# Altium integrated library TI Digital Signal Processor 32-Bit.IntLib: 121 symbols (part 4 of 13)
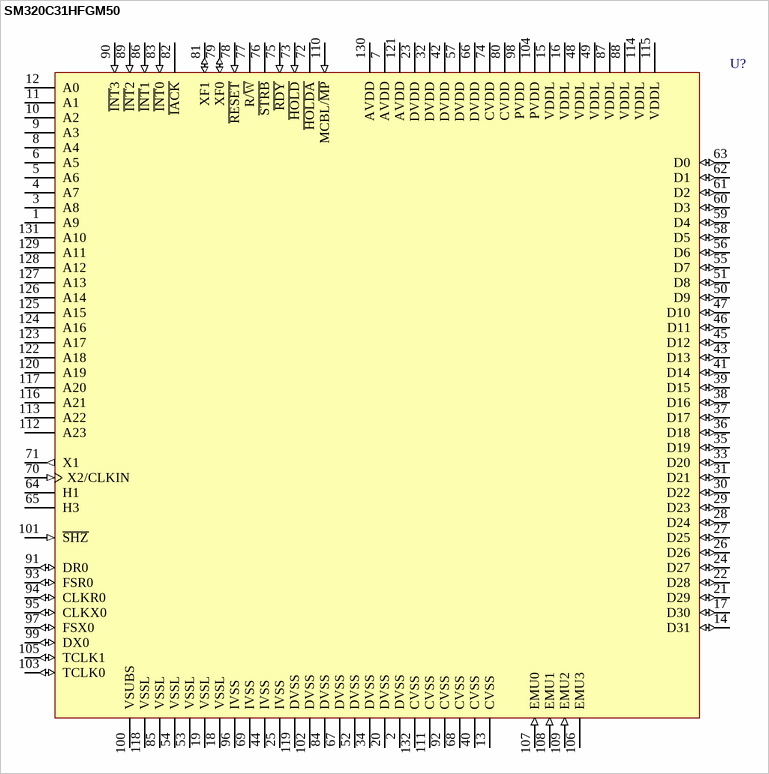
[diagram p133: symbol SM320C31HFGM50]

## SM320C31HFGM50
designator U?
Floating DSP; Published: 25-Jan-2001; LatestRevisionDate: 13-Apr-2006; LatestRevisionNote: IPC-7351 Footprint Added.; DatasheetVersion: Jun-2000; PackageVersion: Jun-1999; PackageReference: HFG132; Publisher: Altium Limited; PackageDescription: 132-Pin Ceramic Quad Flat Pack 0.635 mm Pitch; ComponentLink1Description: Manufacturer Link; ComponentLink1URL: http://www.ti.com/; ComponentLink2Description: Datasheet; ComponentLink2URL: http://www-s.ti.com/sc/ds/sm320c31.pdf
footprint HFG132_N (CQFP, 132-Leads, Body 24x24mm; Pitch 0.635mm, Gullwing Leadform, IPC Medium Density)
footprint HFG132_L (CQFP, 132-Leads, Body 24x24mm; Pitch 0.635mm, Gullwing Leadform, IPC High Density)
footprint HFG132_M (CQFP, 132-Leads, Body 24x24mm; Pitch 0.635mm, Gullwing Leadform, IPC Low Density)
3D model SM320C31-HFG132 (132-Pin Ceramic Quad Flat Pack 0.635 mm Pitch)
pins: 1 A9 (hiz), 2 DVSS (power), 3 A8 (hiz), 4 A7 (hiz), 5 A6 (hiz), 6 A5 (hiz), 7 AVDD (power), 8 A4 (hiz), 9 A3 (hiz), 10 A2 (hiz), 11 A1 (hiz), 12 A0 (hiz), 13 CVSS (power), 14 D31 (io), 15 VDDL (power), 16 VDDL (power), 17 D30 (io), 18 VSSL (power), 19 VSSL (power), 20 DVSS (power), 21 D29 (io), 22 D28 (io), 23 DVDD (power), 24 D27 (io), 25 IVSS (power), 26 D26 (io), 27 D25 (io), 28 D24 (io), 29 D23 (io), 30 D22 (io), 31 D21 (io), 32 DVDD (power), 33 D20 (io), 34 DVSS (power), 35 D19 (io), 36 D18 (io), 37 D17 (io), 38 D16 (io), 39 D15 (io), 40 CVSS (power), 41 D14 (io), 42 DVDD (power), 43 D13 (io), 44 IVSS (power), 45 D12 (io), 46 D11 (io), 47 D10 (io), 48 VDDL (power), 49 VDDL (power), 50 D9 (io), 51 D8 (io), 52 DVSS (power), 53 VSSL (power), 54 VSSL (power), 55 D7 (io), 56 D6 (io), 57 DVDD (power), 58 D5 (io), 59 D4 (io), 60 D3 (io), 61 D2 (io), 62 D1 (io), 63 D0 (io), 64 H1 (hiz), 65 H3 (hiz), 66 DVDD (power), 67 DVSS (power), 68 CVSS (power), 69 IVSS (power), 70 X2/CLKIN (in), 71 X1 (out), 72 ~{HOLDA} (hiz), 73 ~{HOLD} (in), 74 CVDD (power), 75 ~{RDY} (in), 76 ~{STRB} (hiz), 77 R/~{W} (hiz), 78 ~{RESET} (in), 79 XF0 (io), 80 CVDD (power), 81 XF1 (io), 82 ~{IACK} (hiz), 83 ~{INT}0 (in), 84 DVSS (power), 85 VSSL (power), 86 ~{INT}1 (in), 87 VDDL (power), 88 VDDL (power), 89 ~{INT}2 (in), 90 ~{INT}3 (in), 91 DR0 (io), 92 CVSS (power), 93 FSR0 (io), 94 CLKR0 (io), 95 CLKX0 (io), 96 IVSS (power), 97 FSX0 (io), 98 PVDD (power), 99 DX0 (io), 100 VSUBS (power), 101 ~{SHZ} (in), 102 DVSS (power), 103 TCLK0 (io), 104 PVDD (power), 105 TCLK1 (io), 106 EMU3 (hiz), 107 EMU0 (in), 108 EMU1 (in), 109 EMU2 (in), 110 MCBL/~{MP} (in), 111 CVSS (power), 112 A23 (hiz), 113 A22 (hiz), 114 VDDL (power), 115 VDDL (power), 116 A21 (hiz), 117 A20 (hiz), 118 VSSL (power), 119 DVSS (power), 120 A19 (hiz), 121 AVDD (power), 122 A18 (hiz), 123 A17 (hiz), 124 A16 (hiz), 125 A15 (hiz), 126 A14 (hiz), 127 A13 (hiz), 128 A12 (hiz), 129 A11 (hiz), 130 AVDD (power), 131 A10 (hiz), 132 CVSS (power)

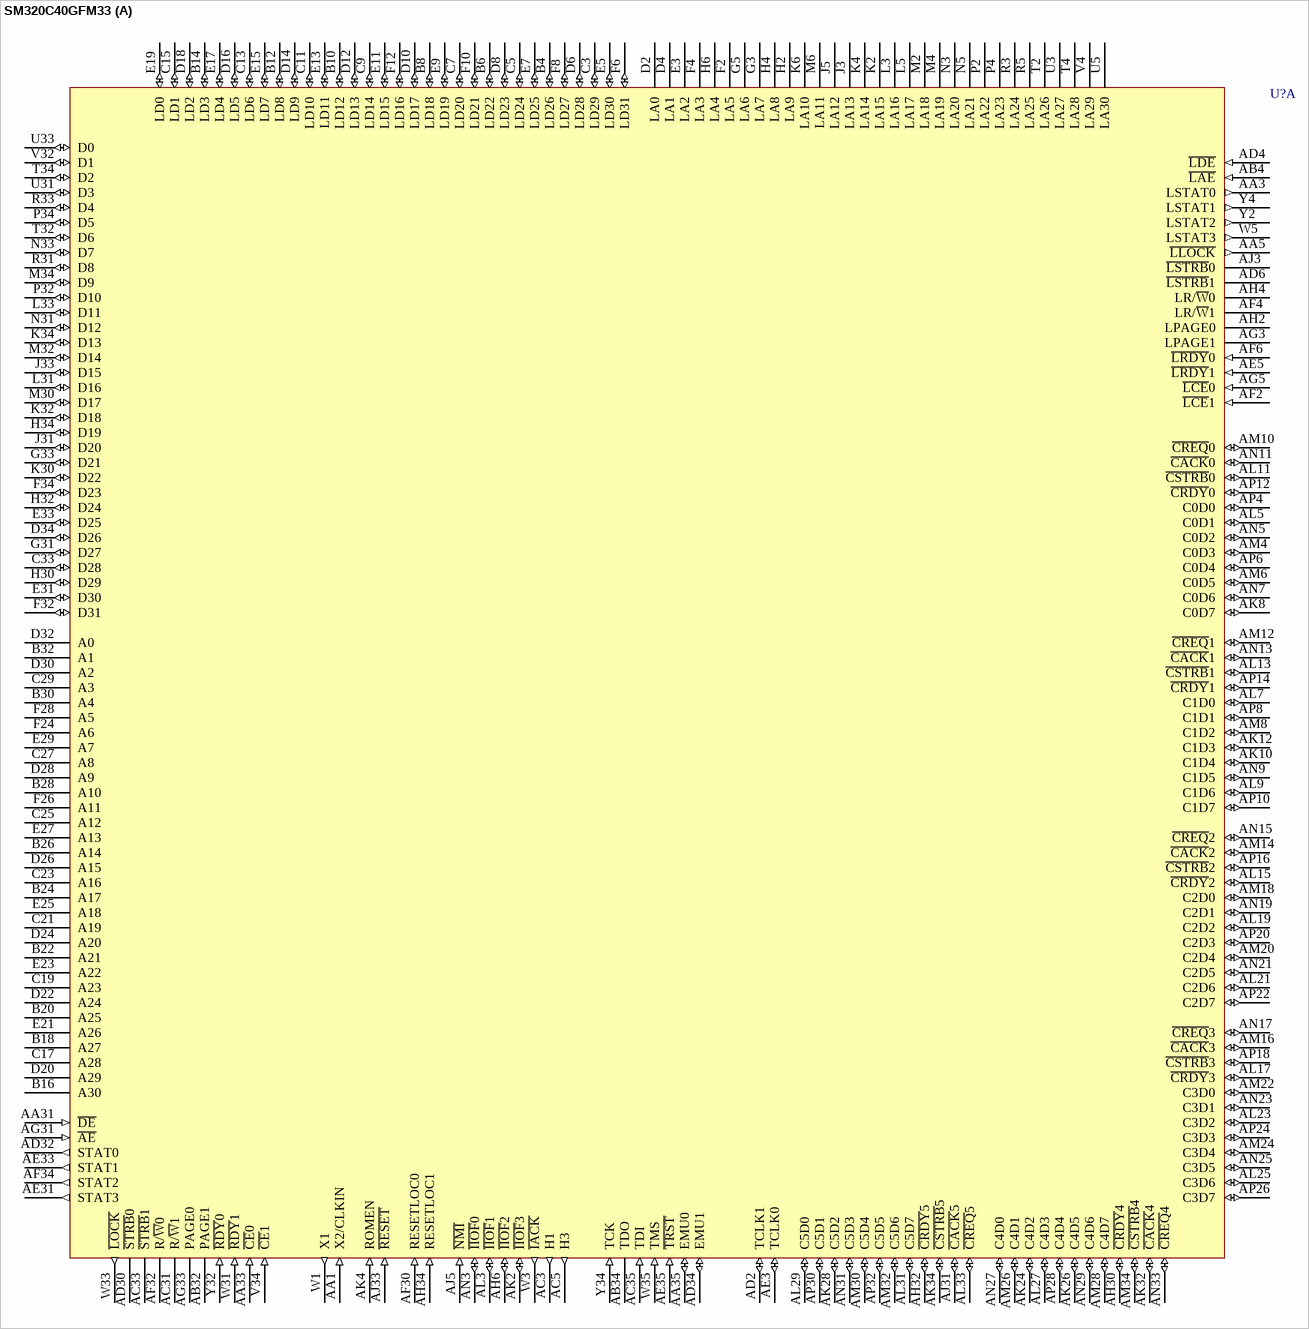
[diagram p36: symbol SM320C40GFM33]

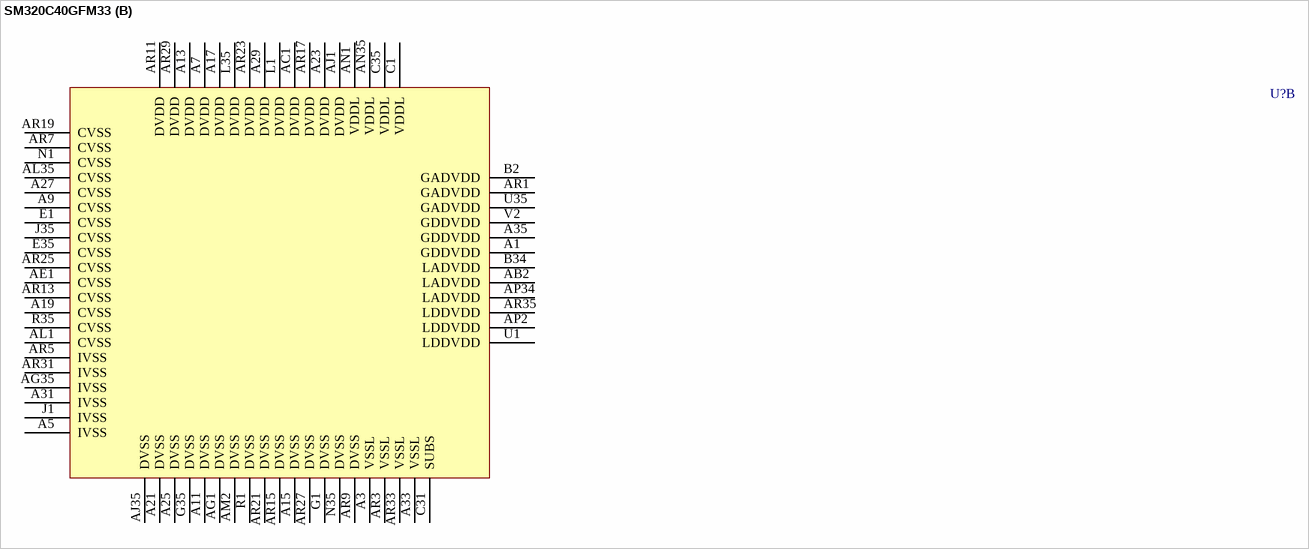
[diagram p37: symbol SM320C40GFM33]

## SM320C40GFM33
designator U?
Floating DSP; Published: 25-Jan-2001; LatestRevisionDate: 08-Jul-2005; LatestRevisionNote: Stylized 3D Model Added.; DatasheetVersion: Jun-2000; PackageVersion: Jun-1997; PackageReference: GF325; Publisher: Altium Limited; PackageDescription: 325-Pin Pin Grid Array 2.54 mm Pitch; ComponentLink1Description: Manufacturer Link; ComponentLink1URL: http://www.ti.com/; ComponentLink2Description: Datasheet; ComponentLink2URL: http://www-s.ti.com/sc/ds/sm320c40.pdf
footprint GF325 (PGA, 325-Leads, Body 47x47mm, Pitch 2.54mm)
3D model SM320C40-GF325 (325-Pin Pin Grid Array 2.54 mm Pitch)
part A pins: AA1 X2/CLKIN (in), AA3 LSTAT0 (out), AA5 ~{LLOCK} (out), AA31 ~{DE} (in), AA33 ~{CE}0 (in), AA35 EMU0 (io), AB4 ~{LAE} (in), AB32 PAGE1 (hiz), AB34 TDO (hiz), AC3 H1 (out), AC5 H3 (out), AC31 R/~{W}1 (hiz), AC33 ~{STRB}1 (hiz), AC35 TDI (in), AD2 TCLK1 (io), AD4 ~{LDE} (in), AD6 ~{LSTRB}1 (hiz), AD30 ~{STRB}0 (hiz), AD32 STAT0 (out), AD34 EMU1 (io), AE3 TCLK0 (io), AE5 ~{LRDY}1 (in), AE31 STAT3 (out), AE33 STAT1 (out), AE35 ~{TRST} (in), AF2 ~{LCE}1 (in), AF4 LR/~{W}1 (hiz), AF6 ~{LRDY}0 (in), AF30 RESETLOC0 (in), AF32 R/~{W}0 (hiz), AF34 STAT2 (out), AG3 LPAGE1 (hiz), AG5 ~{LCE}0 (in), AG31 ~{AE} (in), AG33 PAGE0 (hiz), AH2 LPAGE0 (hiz), AH4 LR/~{W}0 (hiz), AH6 ~{IIOF}2 (io), AH30 ~{CRDY}4 (io), AH32 ~{CRDY}5 (io), AH34 RESETLOC1 (in), AJ3 ~{LSTRB}0 (hiz), AJ5 ~{NMI} (in), AJ31 ~{CACK}5 (io), AJ33 ~{RESET} (in), AK2 ~{IIOF}3 (io), AK4 ROMEN (in), AK8 C0D7 (io), AK10 C1D4 (io), AK12 C1D3 (io), AK24 C4D2 (io), AK26 C4D5 (io), AK28 C5D2 (io), AK32 ~{CACK}4 (io), AK34 ~{CSTRB}5 (io), AL3 ~{IIOF}1 (io), AL5 C0D1 (io), AL7 C1D0 (io), AL9 C1D6 (io), AL11 ~{CSTRB}0 (io), AL13 ~{CSTRB}1 (io), AL15 ~{CRDY}2 (io), AL17 ~{CRDY}3 (io), AL19 C2D2 (io), AL21 C2D6 (io), AL23 C3D2 (io), AL25 C3D6 (io), AL27 C4D3 (io), AL29 C5D0 (io), AL31 C5D7 (io), AL33 ~{CREQ}5 (io), AM4 C0D3 (io), AM6 C0D5 (io), AM8 C1D2 (io), AM10 ~{CREQ}0 (io), AM12 ~{CREQ}1 (io), AM14 ~{CACK}2 (io), AM16 ~{CACK}3 (io), AM18 C2D0 (io), AM20 C2D4 (io), AM22 C3D0 (io), AM24 C3D4 (io), AM26 C4D1 (io), AM28 C4D7 (io), AM30 C5D4 (io), AM32 C5D6 (io), AM34 ~{CSTRB}4 (io), AN3 ~{IIOF}0 (io), AN5 C0D2 (io), AN7 C0D6 (io), AN9 C1D5 (io), AN11 ~{CACK}0 (io), AN13 ~{CACK}1 (io), AN15 ~{CREQ}2 (io), AN17 ~{CREQ}3 (io), AN19 C2D1 (io), AN21 C2D5 (io), AN23 C3D1 (io), AN25 C3D5 (io), AN27 C4D0 (io), AN29 C4D6 (io), AN31 C5D3 (io), AN33 ~{CREQ}4 (io), AP4 C0D0 (io), AP6 C0D4 (io), AP8 C1D1 (io), AP10 C1D7 (io), AP12 ~{CRDY}0 (io), AP14 ~{CRDY}1 (io), AP16 ~{CSTRB}2 (io), AP18 ~{CSTRB}3 (io), AP20 C2D3 (io), AP22 C2D7 (io), AP24 C3D3 (io), AP26 C3D7 (io), AP28 C4D4 (io), AP30 C5D1 (io), AP32 C5D5 (io), B4 LD26 (io), B6 LD22 (io), B8 LD18 (io), B10 LD12 (io), B12 LD8 (io), B14 LD3 (io), B16 A30 (hiz), B18 A27 (hiz), B20 A25 (hiz), B22 A21 (hiz), B24 A17 (hiz), B26 A14 (hiz), B28 A10 (hiz), B30 A4 (hiz), B32 A1 (hiz), C3 LD29 (io), C5 LD24 (io), C7 LD20 (io), C9 LD14 (io), C11 LD10 (io), C13 LD6 (io), C15 LD1 (io), C17 A28 (hiz), C19 A23 (hiz), C21 A19 (hiz), C23 A16 (hiz), C25 A12 (hiz), C27 A8 (hiz), C29 A3 (hiz), C33 D28 (io), D2 LA0 (hiz), D4 LA1 (hiz), D6 LD28 (io), D8 LD23 (io), D10 LD17 (io), D12 LD13 (io), D14 LD9 (io), D16 LD5 (io), D18 LD2 (io), D20 A29 (hiz), D22 A24 (hiz), D24 A20 (hiz), D26 A15 (hiz), D28 A9 (hiz), D30 A2 (hiz), D32 A0 (hiz), D34 D26 (io), E3 LA2 (hiz), E5 LD30 (io), E7 LD25 (io), E9 LD19 (io), E11 LD15 (io), E13 LD11 (io), E15 LD7 (io), E17 LD4 (io), E19 LD0 (io), E21 A26 (hiz), E23 A22 (hiz), E25 A18 (hiz), E27 A13 (hiz), E29 A7 (hiz), E31 D30 (io), E33 D25 (io), F2 LA5 (hiz), F4 LA3 (hiz), F6 LD31 (io), F8 LD27 (io), F10 LD21 (io), F12 LD16 (io), F24 A6 (hiz), F26 A11 (hiz), F28 A5 (hiz), F32 D31 (io), F34 D23 (io), G3 LA7 (hiz), G5 LA6 (hiz), G31 D27 (io), G33 D21 (io), H2 LA9 (hiz), H4 LA8 (hiz), H6 LA4 (hiz), H30 D29 (io), H32 D24 (io), H34 D19 (io), J3 LA13 (hiz), J5 LA12 (hiz), J31 D20 (io), J33 D15 (io), K2 LA15 (hiz), K4 LA14 (hiz), K6 LA10 (hiz), K30 D22 (io), K32 D18 (io), K34 D13 (io), L3 LA16 (hiz), L5 LA17 (hiz), L31 D16 (io), L33 D11 (io), M2 LA18 (hiz), M4 LA19 (hiz), M6 LA11 (hiz), M30 D17 (io), M32 D14 (io), M34 D9 (io), N3 LA20 (hiz), N5 LA21 (hiz), N31 D12 (io), N33 D7 (io), P2 LA22 (hiz), P4 LA23 (hiz), P32 D10 (io), P34 D5 (io), R3 LA24 (hiz), R5 LA25 (hiz), R31 D8 (io), R33 D4 (io), T2 LA26 (hiz), T4 LA28 (hiz), T32 D6 (io), T34 D2 (io), U3 LA27 (hiz), U5 LA30 (hiz), U31 D3 (io), U33 D0 (io), V4 LA29 (hiz), V32 D1 (io), V34 ~{CE}1 (in), W1 X1 (out), W3 ~{IACK} (out), W5 LSTAT3 (out), W31 ~{RDY}1 (in), W33 ~{LOCK} (out), W35 TMS (in), Y2 LSTAT2 (out), Y4 LSTAT1 (out), Y32 ~{RDY}0 (in), Y34 TCK (in)
part B pins: A1 GDDVDD (power), A3 VSSL (power), A5 IVSS (power), A7 DVDD (power), A9 CVSS (power), A11 DVSS (power), A13 DVDD (power), A15 DVSS (power), A17 DVDD (power), A19 CVSS (power), A21 DVSS (power), A23 DVDD (power), A25 DVSS (power), A27 CVSS (power), A29 DVDD (power), A31 IVSS (power), A33 VSSL (power), A35 GDDVDD (power), AB2 LADVDD (power), AC1 DVDD (power), AE1 CVSS (power), AG1 DVSS (power), AG35 IVSS (power), AJ1 DVDD (power), AJ35 DVSS (power), AL1 CVSS (power), AL35 CVSS (power), AM2 DVSS (power), AN1 VDDL (power), AN35 VDDL (power), AP2 LDDVDD (power), AP34 LADVDD (power), AR1 GADVDD (power), AR3 VSSL (power), AR5 IVSS (power), AR7 CVSS (power), AR9 DVSS (power), AR11 DVDD (power), AR13 CVSS (power), AR15 DVSS (power), AR17 DVDD (power), AR19 CVSS (power), AR21 DVSS (power), AR23 DVDD (power), AR25 CVSS (power), AR27 DVSS (power), AR29 DVDD (power), AR31 IVSS (power), AR33 VSSL (power), AR35 LDDVDD (power), B2 GADVDD (power), B34 LADVDD (power), C1 VDDL (power), C31 SUBS (power), C35 VDDL (power), E1 CVSS (power), E35 CVSS (power), G1 DVSS (power), G35 DVSS (power), J1 IVSS (power), J35 CVSS (power), L1 DVDD (power), L35 DVDD (power), N1 CVSS (power), N35 DVSS (power), R1 DVSS (power), R35 CVSS (power), U1 LDDVDD (power), U35 GADVDD (power), V2 GDDVDD (power)

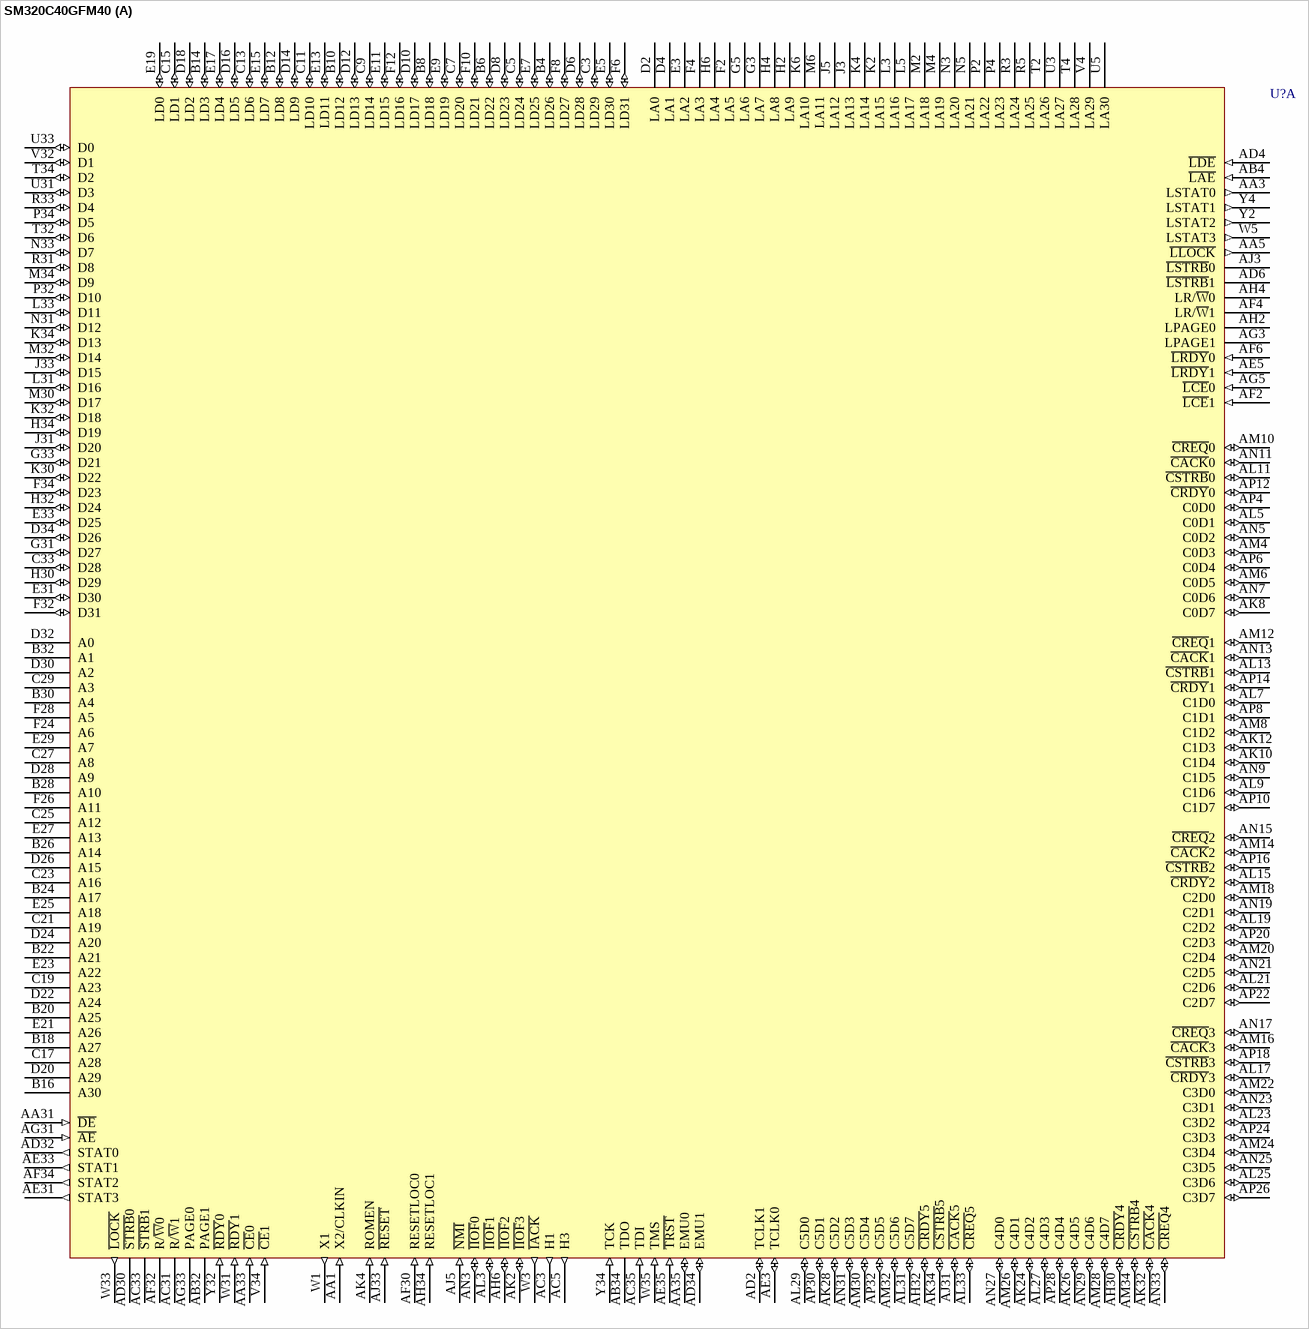
[diagram p38: symbol SM320C40GFM40]

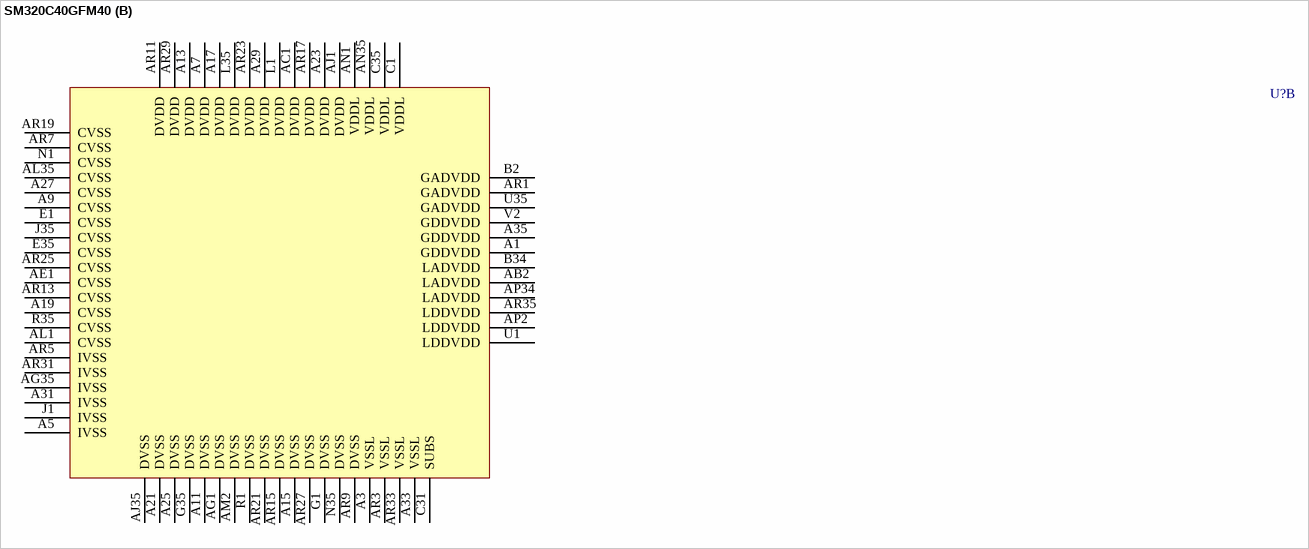
[diagram p39: symbol SM320C40GFM40]

## SM320C40GFM40
designator U?
Floating DSP; Published: 25-Jan-2001; LatestRevisionDate: 08-Jul-2005; LatestRevisionNote: Stylized 3D Model Added.; DatasheetVersion: Jun-2000; PackageVersion: Jun-1997; PackageReference: GF325; Publisher: Altium Limited; PackageDescription: 325-Pin Pin Grid Array 2.54 mm Pitch; ComponentLink1Description: Manufacturer Link; ComponentLink1URL: http://www.ti.com/; ComponentLink2Description: Datasheet; ComponentLink2URL: http://www-s.ti.com/sc/ds/sm320c40.pdf
footprint GF325 (PGA, 325-Leads, Body 47x47mm, Pitch 2.54mm)
3D model SM320C40-GF325 (325-Pin Pin Grid Array 2.54 mm Pitch)
part A pins: AA1 X2/CLKIN (in), AA3 LSTAT0 (out), AA5 ~{LLOCK} (out), AA31 ~{DE} (in), AA33 ~{CE}0 (in), AA35 EMU0 (io), AB4 ~{LAE} (in), AB32 PAGE1 (hiz), AB34 TDO (hiz), AC3 H1 (out), AC5 H3 (out), AC31 R/~{W}1 (hiz), AC33 ~{STRB}1 (hiz), AC35 TDI (in), AD2 TCLK1 (io), AD4 ~{LDE} (in), AD6 ~{LSTRB}1 (hiz), AD30 ~{STRB}0 (hiz), AD32 STAT0 (out), AD34 EMU1 (io), AE3 TCLK0 (io), AE5 ~{LRDY}1 (in), AE31 STAT3 (out), AE33 STAT1 (out), AE35 ~{TRST} (in), AF2 ~{LCE}1 (in), AF4 LR/~{W}1 (hiz), AF6 ~{LRDY}0 (in), AF30 RESETLOC0 (in), AF32 R/~{W}0 (hiz), AF34 STAT2 (out), AG3 LPAGE1 (hiz), AG5 ~{LCE}0 (in), AG31 ~{AE} (in), AG33 PAGE0 (hiz), AH2 LPAGE0 (hiz), AH4 LR/~{W}0 (hiz), AH6 ~{IIOF}2 (io), AH30 ~{CRDY}4 (io), AH32 ~{CRDY}5 (io), AH34 RESETLOC1 (in), AJ3 ~{LSTRB}0 (hiz), AJ5 ~{NMI} (in), AJ31 ~{CACK}5 (io), AJ33 ~{RESET} (in), AK2 ~{IIOF}3 (io), AK4 ROMEN (in), AK8 C0D7 (io), AK10 C1D4 (io), AK12 C1D3 (io), AK24 C4D2 (io), AK26 C4D5 (io), AK28 C5D2 (io), AK32 ~{CACK}4 (io), AK34 ~{CSTRB}5 (io), AL3 ~{IIOF}1 (io), AL5 C0D1 (io), AL7 C1D0 (io), AL9 C1D6 (io), AL11 ~{CSTRB}0 (io), AL13 ~{CSTRB}1 (io), AL15 ~{CRDY}2 (io), AL17 ~{CRDY}3 (io), AL19 C2D2 (io), AL21 C2D6 (io), AL23 C3D2 (io), AL25 C3D6 (io), AL27 C4D3 (io), AL29 C5D0 (io), AL31 C5D7 (io), AL33 ~{CREQ}5 (io), AM4 C0D3 (io), AM6 C0D5 (io), AM8 C1D2 (io), AM10 ~{CREQ}0 (io), AM12 ~{CREQ}1 (io), AM14 ~{CACK}2 (io), AM16 ~{CACK}3 (io), AM18 C2D0 (io), AM20 C2D4 (io), AM22 C3D0 (io), AM24 C3D4 (io), AM26 C4D1 (io), AM28 C4D7 (io), AM30 C5D4 (io), AM32 C5D6 (io), AM34 ~{CSTRB}4 (io), AN3 ~{IIOF}0 (io), AN5 C0D2 (io), AN7 C0D6 (io), AN9 C1D5 (io), AN11 ~{CACK}0 (io), AN13 ~{CACK}1 (io), AN15 ~{CREQ}2 (io), AN17 ~{CREQ}3 (io), AN19 C2D1 (io), AN21 C2D5 (io), AN23 C3D1 (io), AN25 C3D5 (io), AN27 C4D0 (io), AN29 C4D6 (io), AN31 C5D3 (io), AN33 ~{CREQ}4 (io), AP4 C0D0 (io), AP6 C0D4 (io), AP8 C1D1 (io), AP10 C1D7 (io), AP12 ~{CRDY}0 (io), AP14 ~{CRDY}1 (io), AP16 ~{CSTRB}2 (io), AP18 ~{CSTRB}3 (io), AP20 C2D3 (io), AP22 C2D7 (io), AP24 C3D3 (io), AP26 C3D7 (io), AP28 C4D4 (io), AP30 C5D1 (io), AP32 C5D5 (io), B4 LD26 (io), B6 LD22 (io), B8 LD18 (io), B10 LD12 (io), B12 LD8 (io), B14 LD3 (io), B16 A30 (hiz), B18 A27 (hiz), B20 A25 (hiz), B22 A21 (hiz), B24 A17 (hiz), B26 A14 (hiz), B28 A10 (hiz), B30 A4 (hiz), B32 A1 (hiz), C3 LD29 (io), C5 LD24 (io), C7 LD20 (io), C9 LD14 (io), C11 LD10 (io), C13 LD6 (io), C15 LD1 (io), C17 A28 (hiz), C19 A23 (hiz), C21 A19 (hiz), C23 A16 (hiz), C25 A12 (hiz), C27 A8 (hiz), C29 A3 (hiz), C33 D28 (io), D2 LA0 (hiz), D4 LA1 (hiz), D6 LD28 (io), D8 LD23 (io), D10 LD17 (io), D12 LD13 (io), D14 LD9 (io), D16 LD5 (io), D18 LD2 (io), D20 A29 (hiz), D22 A24 (hiz), D24 A20 (hiz), D26 A15 (hiz), D28 A9 (hiz), D30 A2 (hiz), D32 A0 (hiz), D34 D26 (io), E3 LA2 (hiz), E5 LD30 (io), E7 LD25 (io), E9 LD19 (io), E11 LD15 (io), E13 LD11 (io), E15 LD7 (io), E17 LD4 (io), E19 LD0 (io), E21 A26 (hiz), E23 A22 (hiz), E25 A18 (hiz), E27 A13 (hiz), E29 A7 (hiz), E31 D30 (io), E33 D25 (io), F2 LA5 (hiz), F4 LA3 (hiz), F6 LD31 (io), F8 LD27 (io), F10 LD21 (io), F12 LD16 (io), F24 A6 (hiz), F26 A11 (hiz), F28 A5 (hiz), F32 D31 (io), F34 D23 (io), G3 LA7 (hiz), G5 LA6 (hiz), G31 D27 (io), G33 D21 (io), H2 LA9 (hiz), H4 LA8 (hiz), H6 LA4 (hiz), H30 D29 (io), H32 D24 (io), H34 D19 (io), J3 LA13 (hiz), J5 LA12 (hiz), J31 D20 (io), J33 D15 (io), K2 LA15 (hiz), K4 LA14 (hiz), K6 LA10 (hiz), K30 D22 (io), K32 D18 (io), K34 D13 (io), L3 LA16 (hiz), L5 LA17 (hiz), L31 D16 (io), L33 D11 (io), M2 LA18 (hiz), M4 LA19 (hiz), M6 LA11 (hiz), M30 D17 (io), M32 D14 (io), M34 D9 (io), N3 LA20 (hiz), N5 LA21 (hiz), N31 D12 (io), N33 D7 (io), P2 LA22 (hiz), P4 LA23 (hiz), P32 D10 (io), P34 D5 (io), R3 LA24 (hiz), R5 LA25 (hiz), R31 D8 (io), R33 D4 (io), T2 LA26 (hiz), T4 LA28 (hiz), T32 D6 (io), T34 D2 (io), U3 LA27 (hiz), U5 LA30 (hiz), U31 D3 (io), U33 D0 (io), V4 LA29 (hiz), V32 D1 (io), V34 ~{CE}1 (in), W1 X1 (out), W3 ~{IACK} (out), W5 LSTAT3 (out), W31 ~{RDY}1 (in), W33 ~{LOCK} (out), W35 TMS (in), Y2 LSTAT2 (out), Y4 LSTAT1 (out), Y32 ~{RDY}0 (in), Y34 TCK (in)
part B pins: A1 GDDVDD (power), A3 VSSL (power), A5 IVSS (power), A7 DVDD (power), A9 CVSS (power), A11 DVSS (power), A13 DVDD (power), A15 DVSS (power), A17 DVDD (power), A19 CVSS (power), A21 DVSS (power), A23 DVDD (power), A25 DVSS (power), A27 CVSS (power), A29 DVDD (power), A31 IVSS (power), A33 VSSL (power), A35 GDDVDD (power), AB2 LADVDD (power), AC1 DVDD (power), AE1 CVSS (power), AG1 DVSS (power), AG35 IVSS (power), AJ1 DVDD (power), AJ35 DVSS (power), AL1 CVSS (power), AL35 CVSS (power), AM2 DVSS (power), AN1 VDDL (power), AN35 VDDL (power), AP2 LDDVDD (power), AP34 LADVDD (power), AR1 GADVDD (power), AR3 VSSL (power), AR5 IVSS (power), AR7 CVSS (power), AR9 DVSS (power), AR11 DVDD (power), AR13 CVSS (power), AR15 DVSS (power), AR17 DVDD (power), AR19 CVSS (power), AR21 DVSS (power), AR23 DVDD (power), AR25 CVSS (power), AR27 DVSS (power), AR29 DVDD (power), AR31 IVSS (power), AR33 VSSL (power), AR35 LDDVDD (power), B2 GADVDD (power), B34 LADVDD (power), C1 VDDL (power), C31 SUBS (power), C35 VDDL (power), E1 CVSS (power), E35 CVSS (power), G1 DVSS (power), G35 DVSS (power), J1 IVSS (power), J35 CVSS (power), L1 DVDD (power), L35 DVDD (power), N1 CVSS (power), N35 DVSS (power), R1 DVSS (power), R35 CVSS (power), U1 LDDVDD (power), U35 GADVDD (power), V2 GDDVDD (power)

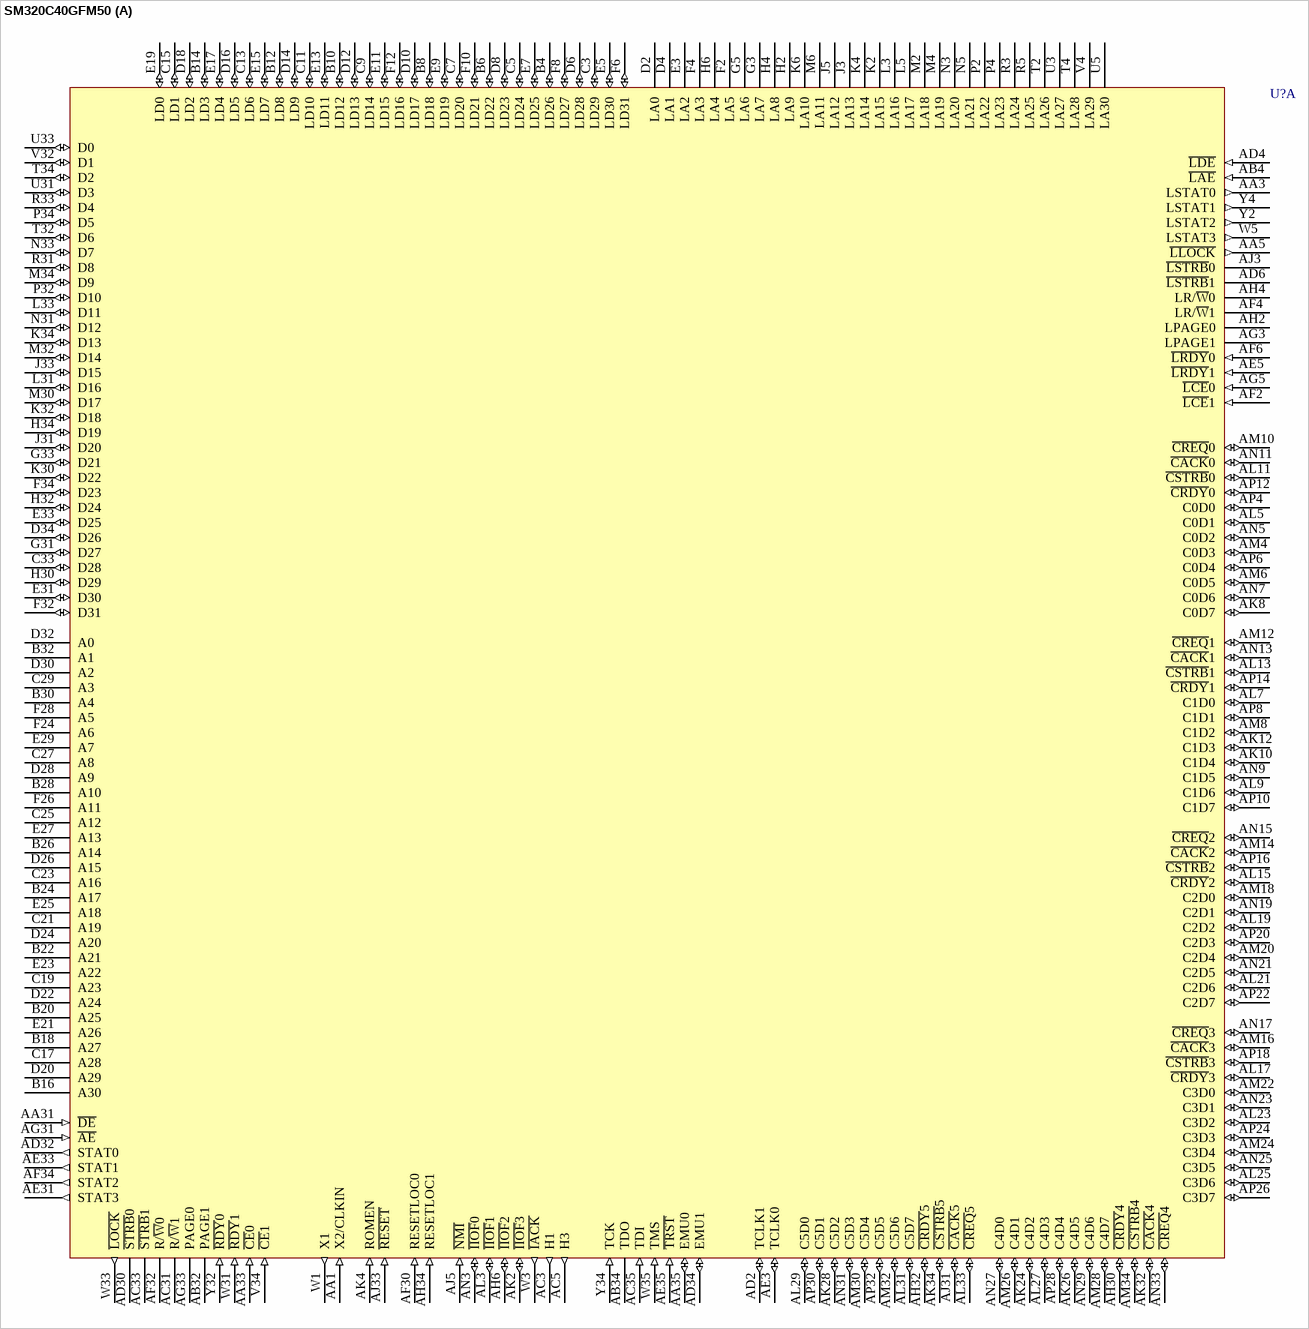
[diagram p40: symbol SM320C40GFM50]

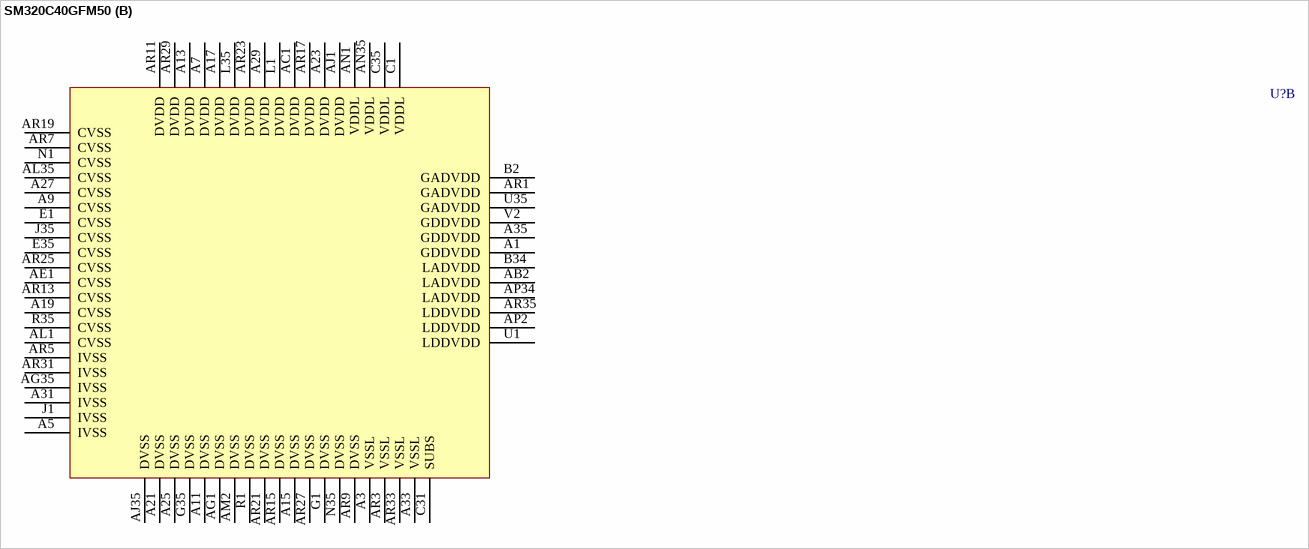
[diagram p41: symbol SM320C40GFM50]

## SM320C40GFM50
designator U?
Floating DSP; Published: 25-Jan-2001; LatestRevisionDate: 08-Jul-2005; LatestRevisionNote: Stylized 3D Model Added.; DatasheetVersion: Jun-2000; PackageVersion: Jun-1997; PackageReference: GF325; Publisher: Altium Limited; PackageDescription: 325-Pin Pin Grid Array 2.54 mm Pitch; ComponentLink1Description: Manufacturer Link; ComponentLink1URL: http://www.ti.com/; ComponentLink2Description: Datasheet; ComponentLink2URL: http://www-s.ti.com/sc/ds/sm320c40.pdf
footprint GF325 (PGA, 325-Leads, Body 47x47mm, Pitch 2.54mm)
3D model SM320C40-GF325 (325-Pin Pin Grid Array 2.54 mm Pitch)
part A pins: AA1 X2/CLKIN (in), AA3 LSTAT0 (out), AA5 ~{LLOCK} (out), AA31 ~{DE} (in), AA33 ~{CE}0 (in), AA35 EMU0 (io), AB4 ~{LAE} (in), AB32 PAGE1 (hiz), AB34 TDO (hiz), AC3 H1 (out), AC5 H3 (out), AC31 R/~{W}1 (hiz), AC33 ~{STRB}1 (hiz), AC35 TDI (in), AD2 TCLK1 (io), AD4 ~{LDE} (in), AD6 ~{LSTRB}1 (hiz), AD30 ~{STRB}0 (hiz), AD32 STAT0 (out), AD34 EMU1 (io), AE3 TCLK0 (io), AE5 ~{LRDY}1 (in), AE31 STAT3 (out), AE33 STAT1 (out), AE35 ~{TRST} (in), AF2 ~{LCE}1 (in), AF4 LR/~{W}1 (hiz), AF6 ~{LRDY}0 (in), AF30 RESETLOC0 (in), AF32 R/~{W}0 (hiz), AF34 STAT2 (out), AG3 LPAGE1 (hiz), AG5 ~{LCE}0 (in), AG31 ~{AE} (in), AG33 PAGE0 (hiz), AH2 LPAGE0 (hiz), AH4 LR/~{W}0 (hiz), AH6 ~{IIOF}2 (io), AH30 ~{CRDY}4 (io), AH32 ~{CRDY}5 (io), AH34 RESETLOC1 (in), AJ3 ~{LSTRB}0 (hiz), AJ5 ~{NMI} (in), AJ31 ~{CACK}5 (io), AJ33 ~{RESET} (in), AK2 ~{IIOF}3 (io), AK4 ROMEN (in), AK8 C0D7 (io), AK10 C1D4 (io), AK12 C1D3 (io), AK24 C4D2 (io), AK26 C4D5 (io), AK28 C5D2 (io), AK32 ~{CACK}4 (io), AK34 ~{CSTRB}5 (io), AL3 ~{IIOF}1 (io), AL5 C0D1 (io), AL7 C1D0 (io), AL9 C1D6 (io), AL11 ~{CSTRB}0 (io), AL13 ~{CSTRB}1 (io), AL15 ~{CRDY}2 (io), AL17 ~{CRDY}3 (io), AL19 C2D2 (io), AL21 C2D6 (io), AL23 C3D2 (io), AL25 C3D6 (io), AL27 C4D3 (io), AL29 C5D0 (io), AL31 C5D7 (io), AL33 ~{CREQ}5 (io), AM4 C0D3 (io), AM6 C0D5 (io), AM8 C1D2 (io), AM10 ~{CREQ}0 (io), AM12 ~{CREQ}1 (io), AM14 ~{CACK}2 (io), AM16 ~{CACK}3 (io), AM18 C2D0 (io), AM20 C2D4 (io), AM22 C3D0 (io), AM24 C3D4 (io), AM26 C4D1 (io), AM28 C4D7 (io), AM30 C5D4 (io), AM32 C5D6 (io), AM34 ~{CSTRB}4 (io), AN3 ~{IIOF}0 (io), AN5 C0D2 (io), AN7 C0D6 (io), AN9 C1D5 (io), AN11 ~{CACK}0 (io), AN13 ~{CACK}1 (io), AN15 ~{CREQ}2 (io), AN17 ~{CREQ}3 (io), AN19 C2D1 (io), AN21 C2D5 (io), AN23 C3D1 (io), AN25 C3D5 (io), AN27 C4D0 (io), AN29 C4D6 (io), AN31 C5D3 (io), AN33 ~{CREQ}4 (io), AP4 C0D0 (io), AP6 C0D4 (io), AP8 C1D1 (io), AP10 C1D7 (io), AP12 ~{CRDY}0 (io), AP14 ~{CRDY}1 (io), AP16 ~{CSTRB}2 (io), AP18 ~{CSTRB}3 (io), AP20 C2D3 (io), AP22 C2D7 (io), AP24 C3D3 (io), AP26 C3D7 (io), AP28 C4D4 (io), AP30 C5D1 (io), AP32 C5D5 (io), B4 LD26 (io), B6 LD22 (io), B8 LD18 (io), B10 LD12 (io), B12 LD8 (io), B14 LD3 (io), B16 A30 (hiz), B18 A27 (hiz), B20 A25 (hiz), B22 A21 (hiz), B24 A17 (hiz), B26 A14 (hiz), B28 A10 (hiz), B30 A4 (hiz), B32 A1 (hiz), C3 LD29 (io), C5 LD24 (io), C7 LD20 (io), C9 LD14 (io), C11 LD10 (io), C13 LD6 (io), C15 LD1 (io), C17 A28 (hiz), C19 A23 (hiz), C21 A19 (hiz), C23 A16 (hiz), C25 A12 (hiz), C27 A8 (hiz), C29 A3 (hiz), C33 D28 (io), D2 LA0 (hiz), D4 LA1 (hiz), D6 LD28 (io), D8 LD23 (io), D10 LD17 (io), D12 LD13 (io), D14 LD9 (io), D16 LD5 (io), D18 LD2 (io), D20 A29 (hiz), D22 A24 (hiz), D24 A20 (hiz), D26 A15 (hiz), D28 A9 (hiz), D30 A2 (hiz), D32 A0 (hiz), D34 D26 (io), E3 LA2 (hiz), E5 LD30 (io), E7 LD25 (io), E9 LD19 (io), E11 LD15 (io), E13 LD11 (io), E15 LD7 (io), E17 LD4 (io), E19 LD0 (io), E21 A26 (hiz), E23 A22 (hiz), E25 A18 (hiz), E27 A13 (hiz), E29 A7 (hiz), E31 D30 (io), E33 D25 (io), F2 LA5 (hiz), F4 LA3 (hiz), F6 LD31 (io), F8 LD27 (io), F10 LD21 (io), F12 LD16 (io), F24 A6 (hiz), F26 A11 (hiz), F28 A5 (hiz), F32 D31 (io), F34 D23 (io), G3 LA7 (hiz), G5 LA6 (hiz), G31 D27 (io), G33 D21 (io), H2 LA9 (hiz), H4 LA8 (hiz), H6 LA4 (hiz), H30 D29 (io), H32 D24 (io), H34 D19 (io), J3 LA13 (hiz), J5 LA12 (hiz), J31 D20 (io), J33 D15 (io), K2 LA15 (hiz), K4 LA14 (hiz), K6 LA10 (hiz), K30 D22 (io), K32 D18 (io), K34 D13 (io), L3 LA16 (hiz), L5 LA17 (hiz), L31 D16 (io), L33 D11 (io), M2 LA18 (hiz), M4 LA19 (hiz), M6 LA11 (hiz), M30 D17 (io), M32 D14 (io), M34 D9 (io), N3 LA20 (hiz), N5 LA21 (hiz), N31 D12 (io), N33 D7 (io), P2 LA22 (hiz), P4 LA23 (hiz), P32 D10 (io), P34 D5 (io), R3 LA24 (hiz), R5 LA25 (hiz), R31 D8 (io), R33 D4 (io), T2 LA26 (hiz), T4 LA28 (hiz), T32 D6 (io), T34 D2 (io), U3 LA27 (hiz), U5 LA30 (hiz), U31 D3 (io), U33 D0 (io), V4 LA29 (hiz), V32 D1 (io), V34 ~{CE}1 (in), W1 X1 (out), W3 ~{IACK} (out), W5 LSTAT3 (out), W31 ~{RDY}1 (in), W33 ~{LOCK} (out), W35 TMS (in), Y2 LSTAT2 (out), Y4 LSTAT1 (out), Y32 ~{RDY}0 (in), Y34 TCK (in)
part B pins: A1 GDDVDD (power), A3 VSSL (power), A5 IVSS (power), A7 DVDD (power), A9 CVSS (power), A11 DVSS (power), A13 DVDD (power), A15 DVSS (power), A17 DVDD (power), A19 CVSS (power), A21 DVSS (power), A23 DVDD (power), A25 DVSS (power), A27 CVSS (power), A29 DVDD (power), A31 IVSS (power), A33 VSSL (power), A35 GDDVDD (power), AB2 LADVDD (power), AC1 DVDD (power), AE1 CVSS (power), AG1 DVSS (power), AG35 IVSS (power), AJ1 DVDD (power), AJ35 DVSS (power), AL1 CVSS (power), AL35 CVSS (power), AM2 DVSS (power), AN1 VDDL (power), AN35 VDDL (power), AP2 LDDVDD (power), AP34 LADVDD (power), AR1 GADVDD (power), AR3 VSSL (power), AR5 IVSS (power), AR7 CVSS (power), AR9 DVSS (power), AR11 DVDD (power), AR13 CVSS (power), AR15 DVSS (power), AR17 DVDD (power), AR19 CVSS (power), AR21 DVSS (power), AR23 DVDD (power), AR25 CVSS (power), AR27 DVSS (power), AR29 DVDD (power), AR31 IVSS (power), AR33 VSSL (power), AR35 LDDVDD (power), B2 GADVDD (power), B34 LADVDD (power), C1 VDDL (power), C31 SUBS (power), C35 VDDL (power), E1 CVSS (power), E35 CVSS (power), G1 DVSS (power), G35 DVSS (power), J1 IVSS (power), J35 CVSS (power), L1 DVDD (power), L35 DVDD (power), N1 CVSS (power), N35 DVSS (power), R1 DVSS (power), R35 CVSS (power), U1 LDDVDD (power), U35 GADVDD (power), V2 GDDVDD (power)

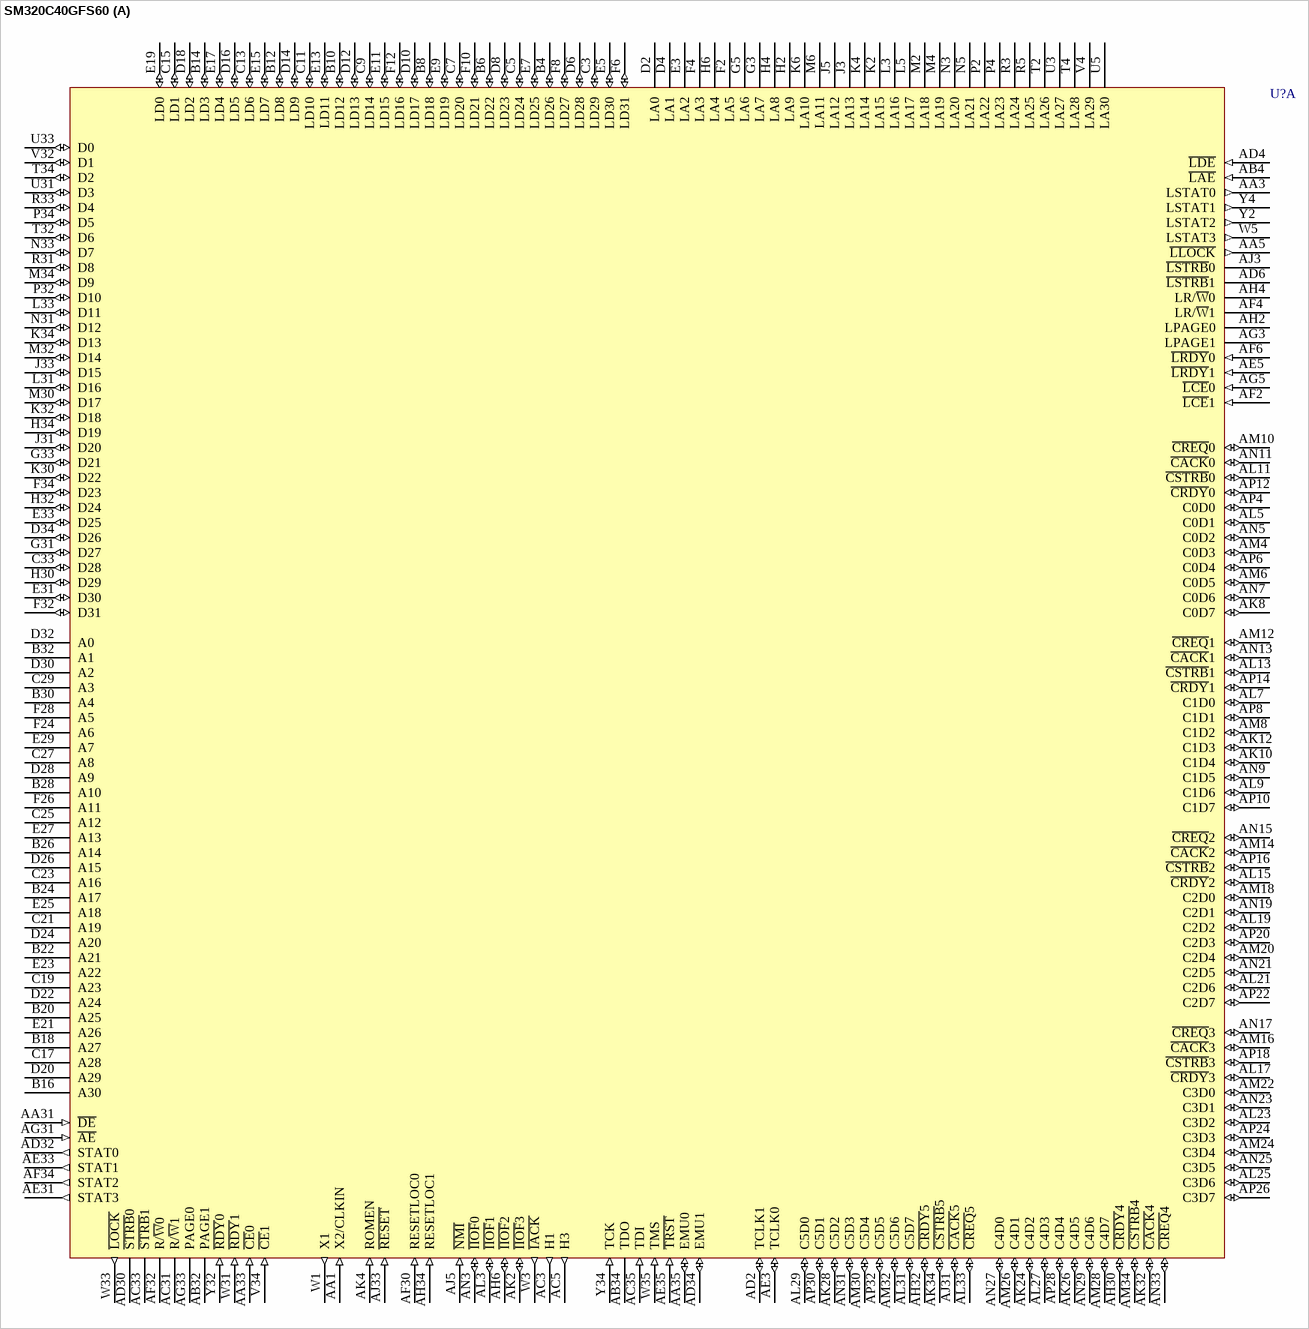
[diagram p42: symbol SM320C40GFS60]

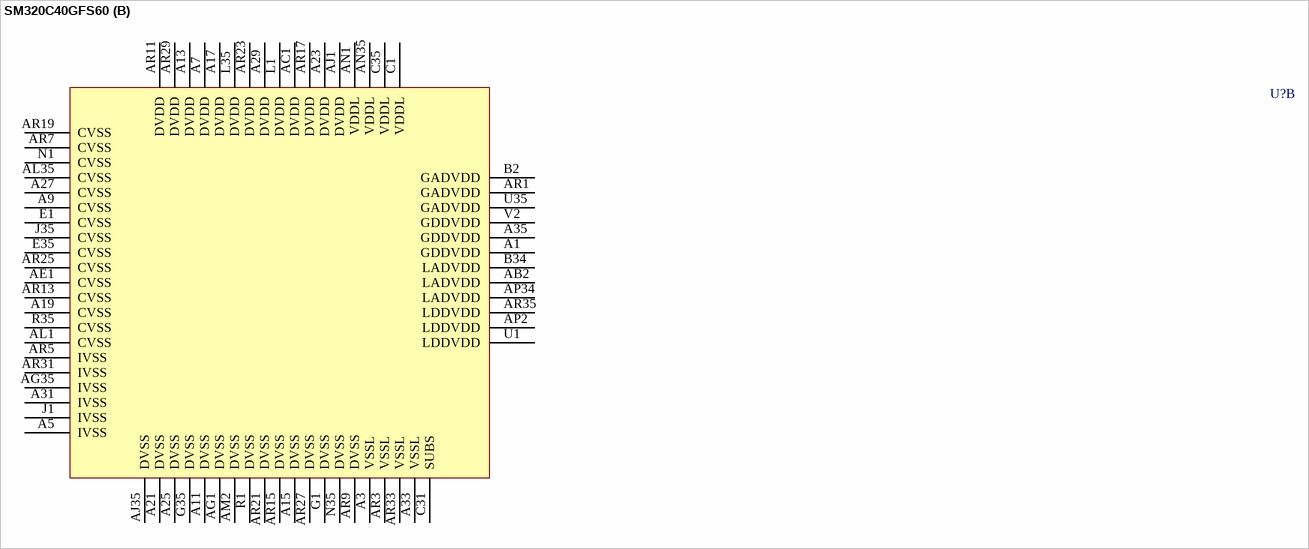
[diagram p43: symbol SM320C40GFS60]

## SM320C40GFS60
designator U?
Floating DSP; Published: 25-Jan-2001; LatestRevisionDate: 08-Jul-2005; LatestRevisionNote: Stylized 3D Model Added.; DatasheetVersion: Jun-2000; PackageVersion: Jun-1997; PackageReference: GF325; Publisher: Altium Limited; PackageDescription: 325-Pin Pin Grid Array 2.54 mm Pitch; ComponentLink1Description: Manufacturer Link; ComponentLink1URL: http://www.ti.com/; ComponentLink2Description: Datasheet; ComponentLink2URL: http://www-s.ti.com/sc/ds/sm320c40.pdf
footprint GF325 (PGA, 325-Leads, Body 47x47mm, Pitch 2.54mm)
3D model SM320C40-GF325 (325-Pin Pin Grid Array 2.54 mm Pitch)
part A pins: AA1 X2/CLKIN (in), AA3 LSTAT0 (out), AA5 ~{LLOCK} (out), AA31 ~{DE} (in), AA33 ~{CE}0 (in), AA35 EMU0 (io), AB4 ~{LAE} (in), AB32 PAGE1 (hiz), AB34 TDO (hiz), AC3 H1 (out), AC5 H3 (out), AC31 R/~{W}1 (hiz), AC33 ~{STRB}1 (hiz), AC35 TDI (in), AD2 TCLK1 (io), AD4 ~{LDE} (in), AD6 ~{LSTRB}1 (hiz), AD30 ~{STRB}0 (hiz), AD32 STAT0 (out), AD34 EMU1 (io), AE3 TCLK0 (io), AE5 ~{LRDY}1 (in), AE31 STAT3 (out), AE33 STAT1 (out), AE35 ~{TRST} (in), AF2 ~{LCE}1 (in), AF4 LR/~{W}1 (hiz), AF6 ~{LRDY}0 (in), AF30 RESETLOC0 (in), AF32 R/~{W}0 (hiz), AF34 STAT2 (out), AG3 LPAGE1 (hiz), AG5 ~{LCE}0 (in), AG31 ~{AE} (in), AG33 PAGE0 (hiz), AH2 LPAGE0 (hiz), AH4 LR/~{W}0 (hiz), AH6 ~{IIOF}2 (io), AH30 ~{CRDY}4 (io), AH32 ~{CRDY}5 (io), AH34 RESETLOC1 (in), AJ3 ~{LSTRB}0 (hiz), AJ5 ~{NMI} (in), AJ31 ~{CACK}5 (io), AJ33 ~{RESET} (in), AK2 ~{IIOF}3 (io), AK4 ROMEN (in), AK8 C0D7 (io), AK10 C1D4 (io), AK12 C1D3 (io), AK24 C4D2 (io), AK26 C4D5 (io), AK28 C5D2 (io), AK32 ~{CACK}4 (io), AK34 ~{CSTRB}5 (io), AL3 ~{IIOF}1 (io), AL5 C0D1 (io), AL7 C1D0 (io), AL9 C1D6 (io), AL11 ~{CSTRB}0 (io), AL13 ~{CSTRB}1 (io), AL15 ~{CRDY}2 (io), AL17 ~{CRDY}3 (io), AL19 C2D2 (io), AL21 C2D6 (io), AL23 C3D2 (io), AL25 C3D6 (io), AL27 C4D3 (io), AL29 C5D0 (io), AL31 C5D7 (io), AL33 ~{CREQ}5 (io), AM4 C0D3 (io), AM6 C0D5 (io), AM8 C1D2 (io), AM10 ~{CREQ}0 (io), AM12 ~{CREQ}1 (io), AM14 ~{CACK}2 (io), AM16 ~{CACK}3 (io), AM18 C2D0 (io), AM20 C2D4 (io), AM22 C3D0 (io), AM24 C3D4 (io), AM26 C4D1 (io), AM28 C4D7 (io), AM30 C5D4 (io), AM32 C5D6 (io), AM34 ~{CSTRB}4 (io), AN3 ~{IIOF}0 (io), AN5 C0D2 (io), AN7 C0D6 (io), AN9 C1D5 (io), AN11 ~{CACK}0 (io), AN13 ~{CACK}1 (io), AN15 ~{CREQ}2 (io), AN17 ~{CREQ}3 (io), AN19 C2D1 (io), AN21 C2D5 (io), AN23 C3D1 (io), AN25 C3D5 (io), AN27 C4D0 (io), AN29 C4D6 (io), AN31 C5D3 (io), AN33 ~{CREQ}4 (io), AP4 C0D0 (io), AP6 C0D4 (io), AP8 C1D1 (io), AP10 C1D7 (io), AP12 ~{CRDY}0 (io), AP14 ~{CRDY}1 (io), AP16 ~{CSTRB}2 (io), AP18 ~{CSTRB}3 (io), AP20 C2D3 (io), AP22 C2D7 (io), AP24 C3D3 (io), AP26 C3D7 (io), AP28 C4D4 (io), AP30 C5D1 (io), AP32 C5D5 (io), B4 LD26 (io), B6 LD22 (io), B8 LD18 (io), B10 LD12 (io), B12 LD8 (io), B14 LD3 (io), B16 A30 (hiz), B18 A27 (hiz), B20 A25 (hiz), B22 A21 (hiz), B24 A17 (hiz), B26 A14 (hiz), B28 A10 (hiz), B30 A4 (hiz), B32 A1 (hiz), C3 LD29 (io), C5 LD24 (io), C7 LD20 (io), C9 LD14 (io), C11 LD10 (io), C13 LD6 (io), C15 LD1 (io), C17 A28 (hiz), C19 A23 (hiz), C21 A19 (hiz), C23 A16 (hiz), C25 A12 (hiz), C27 A8 (hiz), C29 A3 (hiz), C33 D28 (io), D2 LA0 (hiz), D4 LA1 (hiz), D6 LD28 (io), D8 LD23 (io), D10 LD17 (io), D12 LD13 (io), D14 LD9 (io), D16 LD5 (io), D18 LD2 (io), D20 A29 (hiz), D22 A24 (hiz), D24 A20 (hiz), D26 A15 (hiz), D28 A9 (hiz), D30 A2 (hiz), D32 A0 (hiz), D34 D26 (io), E3 LA2 (hiz), E5 LD30 (io), E7 LD25 (io), E9 LD19 (io), E11 LD15 (io), E13 LD11 (io), E15 LD7 (io), E17 LD4 (io), E19 LD0 (io), E21 A26 (hiz), E23 A22 (hiz), E25 A18 (hiz), E27 A13 (hiz), E29 A7 (hiz), E31 D30 (io), E33 D25 (io), F2 LA5 (hiz), F4 LA3 (hiz), F6 LD31 (io), F8 LD27 (io), F10 LD21 (io), F12 LD16 (io), F24 A6 (hiz), F26 A11 (hiz), F28 A5 (hiz), F32 D31 (io), F34 D23 (io), G3 LA7 (hiz), G5 LA6 (hiz), G31 D27 (io), G33 D21 (io), H2 LA9 (hiz), H4 LA8 (hiz), H6 LA4 (hiz), H30 D29 (io), H32 D24 (io), H34 D19 (io), J3 LA13 (hiz), J5 LA12 (hiz), J31 D20 (io), J33 D15 (io), K2 LA15 (hiz), K4 LA14 (hiz), K6 LA10 (hiz), K30 D22 (io), K32 D18 (io), K34 D13 (io), L3 LA16 (hiz), L5 LA17 (hiz), L31 D16 (io), L33 D11 (io), M2 LA18 (hiz), M4 LA19 (hiz), M6 LA11 (hiz), M30 D17 (io), M32 D14 (io), M34 D9 (io), N3 LA20 (hiz), N5 LA21 (hiz), N31 D12 (io), N33 D7 (io), P2 LA22 (hiz), P4 LA23 (hiz), P32 D10 (io), P34 D5 (io), R3 LA24 (hiz), R5 LA25 (hiz), R31 D8 (io), R33 D4 (io), T2 LA26 (hiz), T4 LA28 (hiz), T32 D6 (io), T34 D2 (io), U3 LA27 (hiz), U5 LA30 (hiz), U31 D3 (io), U33 D0 (io), V4 LA29 (hiz), V32 D1 (io), V34 ~{CE}1 (in), W1 X1 (out), W3 ~{IACK} (out), W5 LSTAT3 (out), W31 ~{RDY}1 (in), W33 ~{LOCK} (out), W35 TMS (in), Y2 LSTAT2 (out), Y4 LSTAT1 (out), Y32 ~{RDY}0 (in), Y34 TCK (in)
part B pins: A1 GDDVDD (power), A3 VSSL (power), A5 IVSS (power), A7 DVDD (power), A9 CVSS (power), A11 DVSS (power), A13 DVDD (power), A15 DVSS (power), A17 DVDD (power), A19 CVSS (power), A21 DVSS (power), A23 DVDD (power), A25 DVSS (power), A27 CVSS (power), A29 DVDD (power), A31 IVSS (power), A33 VSSL (power), A35 GDDVDD (power), AB2 LADVDD (power), AC1 DVDD (power), AE1 CVSS (power), AG1 DVSS (power), AG35 IVSS (power), AJ1 DVDD (power), AJ35 DVSS (power), AL1 CVSS (power), AL35 CVSS (power), AM2 DVSS (power), AN1 VDDL (power), AN35 VDDL (power), AP2 LDDVDD (power), AP34 LADVDD (power), AR1 GADVDD (power), AR3 VSSL (power), AR5 IVSS (power), AR7 CVSS (power), AR9 DVSS (power), AR11 DVDD (power), AR13 CVSS (power), AR15 DVSS (power), AR17 DVDD (power), AR19 CVSS (power), AR21 DVSS (power), AR23 DVDD (power), AR25 CVSS (power), AR27 DVSS (power), AR29 DVDD (power), AR31 IVSS (power), AR33 VSSL (power), AR35 LDDVDD (power), B2 GADVDD (power), B34 LADVDD (power), C1 VDDL (power), C31 SUBS (power), C35 VDDL (power), E1 CVSS (power), E35 CVSS (power), G1 DVSS (power), G35 DVSS (power), J1 IVSS (power), J35 CVSS (power), L1 DVDD (power), L35 DVDD (power), N1 CVSS (power), N35 DVSS (power), R1 DVSS (power), R35 CVSS (power), U1 LDDVDD (power), U35 GADVDD (power), V2 GDDVDD (power)

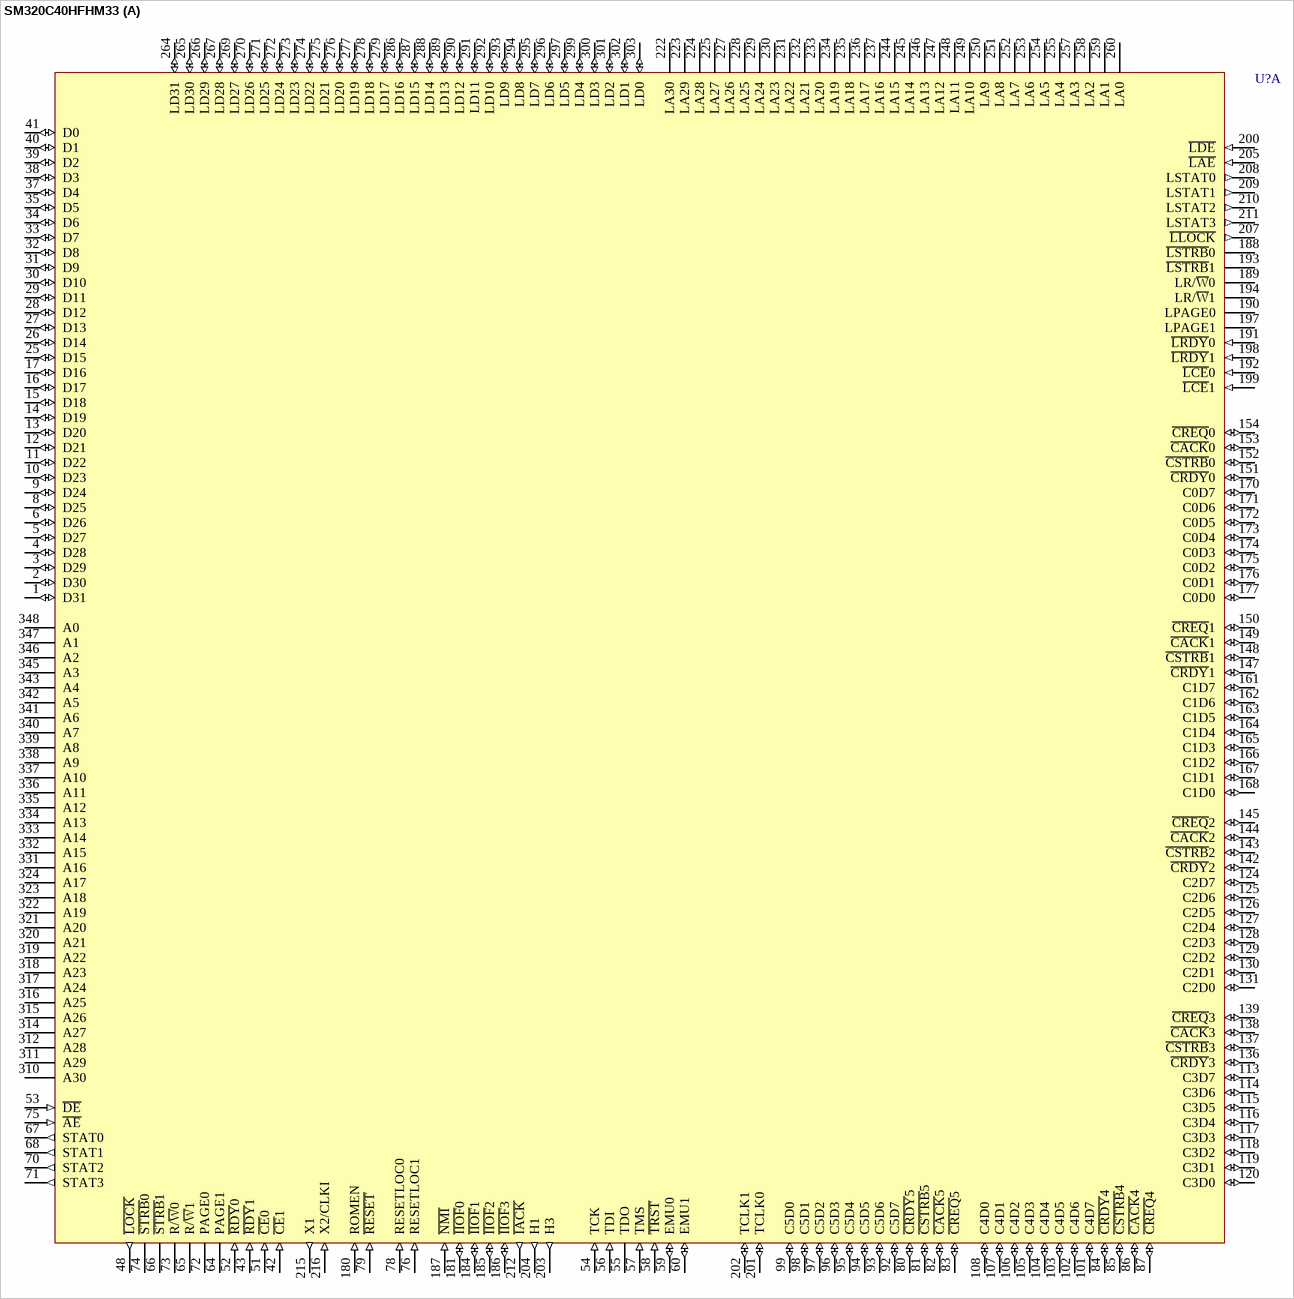
[diagram p44: symbol SM320C40HFHM33]

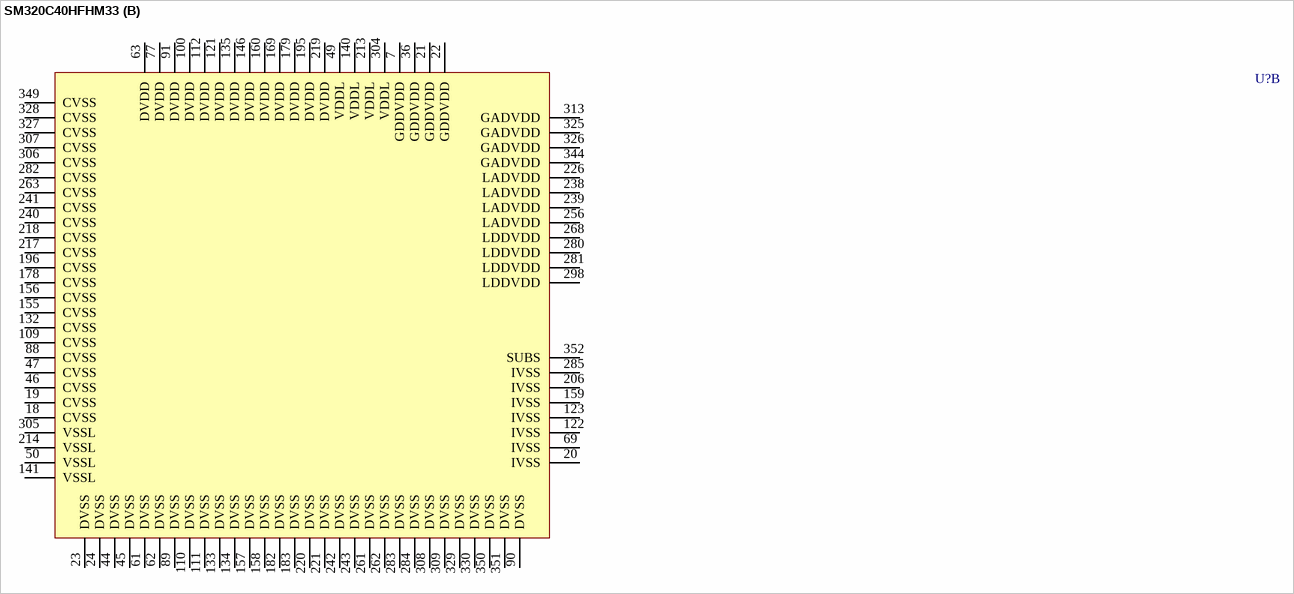
[diagram p45: symbol SM320C40HFHM33]

## SM320C40HFHM33
designator U?
Floating DSP; Published: 25-Jan-2001; LatestRevisionDate: 13-Apr-2006; LatestRevisionNote: IPC-7351 Footprint Added.; DatasheetVersion: Jun-2000; PackageVersion: Jun-1999; PackageReference: HFH352; Publisher: Altium Limited; PackageDescription: QFP; 352 Leads; Body 48 x 48 mm; Pitch 0.5mm; ComponentLink1Description: Manufacturer Link; ComponentLink1URL: http://www.ti.com/; ComponentLink2Description: Datasheet; ComponentLink2URL: http://www-s.ti.com/sc/ds/sm320c40.pdf
footprint HFH352_N (CQFP, 352-Leads, Body 48x48mm; Pitch 0.5mm, Gullwing Leadform, IPC Medium Density)
footprint HFH352_L (CQFP, 352-Leads, Body 48x48mm; Pitch 0.5mm, Gullwing Leadform, IPC High Density)
footprint HFH352_M (CQFP, 352-Leads, Body 48x48mm; Pitch 0.5mm, Gullwing Leadform, IPC Low Density)
3D model SM320C40-HFH352 (QFP; 352 Leads; Body 48 x 48 mm; Pitch 0.5mm)
part A pins: 1 D31 (io), 2 D30 (io), 3 D29 (io), 4 D28 (io), 5 D27 (io), 6 D26 (io), 8 D25 (io), 9 D24 (io), 10 D23 (io), 11 D22 (io), 12 D21 (io), 13 D20 (io), 14 D19 (io), 15 D18 (io), 16 D17 (io), 17 D16 (io), 25 D15 (io), 26 D14 (io), 27 D13 (io), 28 D12 (io), 29 D11 (io), 30 D10 (io), 31 D9 (io), 32 D8 (io), 33 D7 (io), 34 D6 (io), 35 D5 (io), 37 D4 (io), 38 D3 (io), 39 D2 (io), 40 D1 (io), 41 D0 (io), 42 ~{CE}1 (in), 43 ~{RDY}1 (in), 48 ~{LOCK} (out), 51 ~{CE}0 (in), 52 ~{RDY}0 (in), 53 ~{DE} (in), 54 TCK (in), 55 TDO (hiz), 56 TDI (in), 57 TMS (in), 58 ~{TRST} (in), 59 EMU0 (io), 60 EMU1 (io), 64 PAGE1 (hiz), 65 R/~{W}1 (hiz), 66 ~{STRB}1 (hiz), 67 STAT0 (out), 68 STAT1 (out), 70 STAT2 (out), 71 STAT3 (out), 72 PAGE0 (hiz), 73 R/~{W}0 (hiz), 74 ~{STRB}0 (hiz), 75 ~{AE} (in), 76 RESETLOC1 (in), 78 RESETLOC0 (in), 79 ~{RESET} (in), 80 ~{CRDY}5 (io), 81 ~{CSTRB}5 (io), 82 ~{CACK}5 (io), 83 ~{CREQ}5 (io), 84 ~{CRDY}4 (io), 85 ~{CSTRB}4 (io), 86 ~{CACK}4 (io), 87 ~{CREQ}4 (io), 92 C5D7 (io), 93 C5D6 (io), 94 C5D5 (io), 95 C5D4 (io), 96 C5D3 (io), 97 C5D2 (io), 98 C5D1 (io), 99 C5D0 (io), 101 C4D7 (io), 102 C4D6 (io), 103 C4D5 (io), 104 C4D4 (io), 105 C4D3 (io), 106 C4D2 (io), 107 C4D1 (io), 108 C4D0 (io), 113 C3D7 (io), 114 C3D6 (io), 115 C3D5 (io), 116 C3D4 (io), 117 C3D3 (io), 118 C3D2 (io), 119 C3D1 (io), 120 C3D0 (io), 124 C2D7 (io), 125 C2D6 (io), 126 C2D5 (io), 127 C2D4 (io), 128 C2D3 (io), 129 C2D2 (io), 130 C2D1 (io), 131 C2D0 (io), 136 ~{CRDY}3 (io), 137 ~{CSTRB}3 (io), 138 ~{CACK}3 (io), 139 ~{CREQ}3 (io), 142 ~{CRDY}2 (io), 143 ~{CSTRB}2 (io), 144 ~{CACK}2 (io), 145 ~{CREQ}2 (io), 147 ~{CRDY}1 (io), 148 ~{CSTRB}1 (io), 149 ~{CACK}1 (io), 150 ~{CREQ}1 (io), 151 ~{CRDY}0 (io), 152 ~{CSTRB}0 (io), 153 ~{CACK}0 (io), 154 ~{CREQ}0 (io), 161 C1D7 (io), 162 C1D6 (io), 163 C1D5 (io), 164 C1D4 (io), 165 C1D3 (io), 166 C1D2 (io), 167 C1D1 (io), 168 C1D0 (io), 170 C0D7 (io), 171 C0D6 (io), 172 C0D5 (io), 173 C0D4 (io), 174 C0D3 (io), 175 C0D2 (io), 176 C0D1 (io), 177 C0D0 (io), 180 ROMEN (in), 181 ~{IIOF}0 (io), 184 ~{IIOF}1 (io), 185 ~{IIOF}2 (io), 186 ~{IIOF}3 (io), 187 ~{NMI} (in), 188 ~{LSTRB}0 (hiz), 189 LR/~{W}0 (hiz), 190 LPAGE0 (hiz), 191 ~{LRDY}0 (in), 192 ~{LCE}0 (in), 193 ~{LSTRB}1 (hiz), 194 LR/~{W}1 (hiz), 197 LPAGE1 (hiz), 198 ~{LRDY}1 (in), 199 ~{LCE}1 (in), 200 ~{LDE} (in), 201 TCLK0 (io), 202 TCLK1 (io), 203 H3 (out), 204 H1 (out), 205 ~{LAE} (in), 207 ~{LLOCK} (out), 208 LSTAT0 (out), 209 LSTAT1 (out), 210 LSTAT2 (out), 211 LSTAT3 (out), 212 ~{IACK} (out), 215 X1 (out), 216 X2/CLKI (in), 222 LA30 (hiz), 223 LA29 (hiz), 224 LA28 (hiz), 225 LA27 (hiz), 227 LA26 (hiz), 228 LA25 (hiz), 229 LA24 (hiz), 230 LA23 (hiz), 231 LA22 (hiz), 232 LA21 (hiz), 233 LA20 (hiz), 234 LA19 (hiz), 235 LA18 (hiz), 236 LA17 (hiz), 237 LA16 (hiz), 244 LA15 (hiz), 245 LA14 (hiz), 246 LA13 (hiz), 247 LA12 (hiz), 248 LA11 (hiz), 249 LA10 (hiz), 250 LA9 (hiz), 251 LA8 (hiz), 252 LA7 (hiz), 253 LA6 (hiz), 254 LA5 (hiz), 255 LA4 (hiz), 257 LA3 (hiz), 258 LA2 (hiz), 259 LA1 (hiz), 260 LA0 (hiz), 264 LD31 (io), 265 LD30 (io), 266 LD29 (io), 267 LD28 (io), 269 LD27 (io), 270 LD26 (io), 271 LD25 (io), 272 LD24 (io), 273 LD23 (io), 274 LD22 (io), 275 LD21 (io), 276 LD20 (io), 277 LD19 (io), 278 LD18 (io), 279 LD17 (io), 286 LD16 (io), 287 LD15 (io), 288 LD14 (io), 289 LD13 (io), 290 LD12 (io), 291 LD11 (io), 292 LD10 (io), 293 LD9 (io), 294 LD8 (io), 295 LD7 (io), 296 LD6 (io), 297 LD5 (io), 299 LD4 (io), 300 LD3 (io), 301 LD2 (io), 302 LD1 (io), 303 LD0 (io), 310 A30 (hiz), 311 A29 (hiz), 312 A28 (hiz), 314 A27 (hiz), 315 A26 (hiz), 316 A25 (hiz), 317 A24 (hiz), 318 A23 (hiz), 319 A22 (hiz), 320 A21 (hiz), 321 A20 (hiz), 322 A19 (hiz), 323 A18 (hiz), 324 A17 (hiz), 331 A16 (hiz), 332 A15 (hiz), 333 A14 (hiz), 334 A13 (hiz), 335 A12 (hiz), 336 A11 (hiz), 337 A10 (hiz), 338 A9 (hiz), 339 A8 (hiz), 340 A7 (hiz), 341 A6 (hiz), 342 A5 (hiz), 343 A4 (hiz), 345 A3 (hiz), 346 A2 (hiz), 347 A1 (hiz), 348 A0 (hiz)
part B pins: 7 GDDVDD (power), 18 CVSS (power), 19 CVSS (power), 20 IVSS (power), 21 GDDVDD (power), 22 GDDVDD (power), 23 DVSS (power), 24 DVSS (power), 36 GDDVDD (power), 44 DVSS (power), 45 DVSS (power), 46 CVSS (power), 47 CVSS (power), 49 VDDL (power), 50 VSSL (power), 61 DVSS (power), 62 DVSS (power), 63 DVDD (power), 69 IVSS (power), 77 DVDD (power), 88 CVSS (power), 89 DVSS (power), 90 DVSS (power), 91 DVDD (power), 100 DVDD (power), 109 CVSS (power), 110 DVSS (power), 111 DVSS (power), 112 DVDD (power), 121 DVDD (power), 122 IVSS (power), 123 IVSS (power), 132 CVSS (power), 133 DVSS (power), 134 DVSS (power), 135 DVDD (power), 140 VDDL (power), 141 VSSL (power), 146 DVDD (power), 155 CVSS (power), 156 CVSS (power), 157 DVSS (power), 158 DVSS (power), 159 IVSS (power), 160 DVDD (power), 169 DVDD (power), 178 CVSS (power), 179 DVDD (power), 182 DVSS (power), 183 DVSS (power), 195 DVDD (power), 196 CVSS (power), 206 IVSS (power), 213 VDDL (power), 214 VSSL (power), 217 CVSS (power), 218 CVSS (power), 219 DVDD (power), 220 DVSS (power), 221 DVSS (power), 226 LADVDD (power), 238 LADVDD (power), 239 LADVDD (power), 240 CVSS (power), 241 CVSS (power), 242 DVSS (power), 243 DVSS (power), 256 LADVDD (power), 261 DVSS (power), 262 DVSS (power), 263 CVSS (power), 268 LDDVDD (power), 280 LDDVDD (power), 281 LDDVDD (power), 282 CVSS (power), 283 DVSS (power), 284 DVSS (power), 285 IVSS (power), 298 LDDVDD (power), 304 VDDL (power), 305 VSSL (power), 306 CVSS (power), 307 CVSS (power), 308 DVSS (power), 309 DVSS (power), 313 GADVDD (power), 325 GADVDD (power), 326 GADVDD (power), 327 CVSS (power), 328 CVSS (power), 329 DVSS (power), 330 DVSS (power), 344 GADVDD (power), 349 CVSS (power), 350 DVSS (power), 351 DVSS (power), 352 SUBS (power)

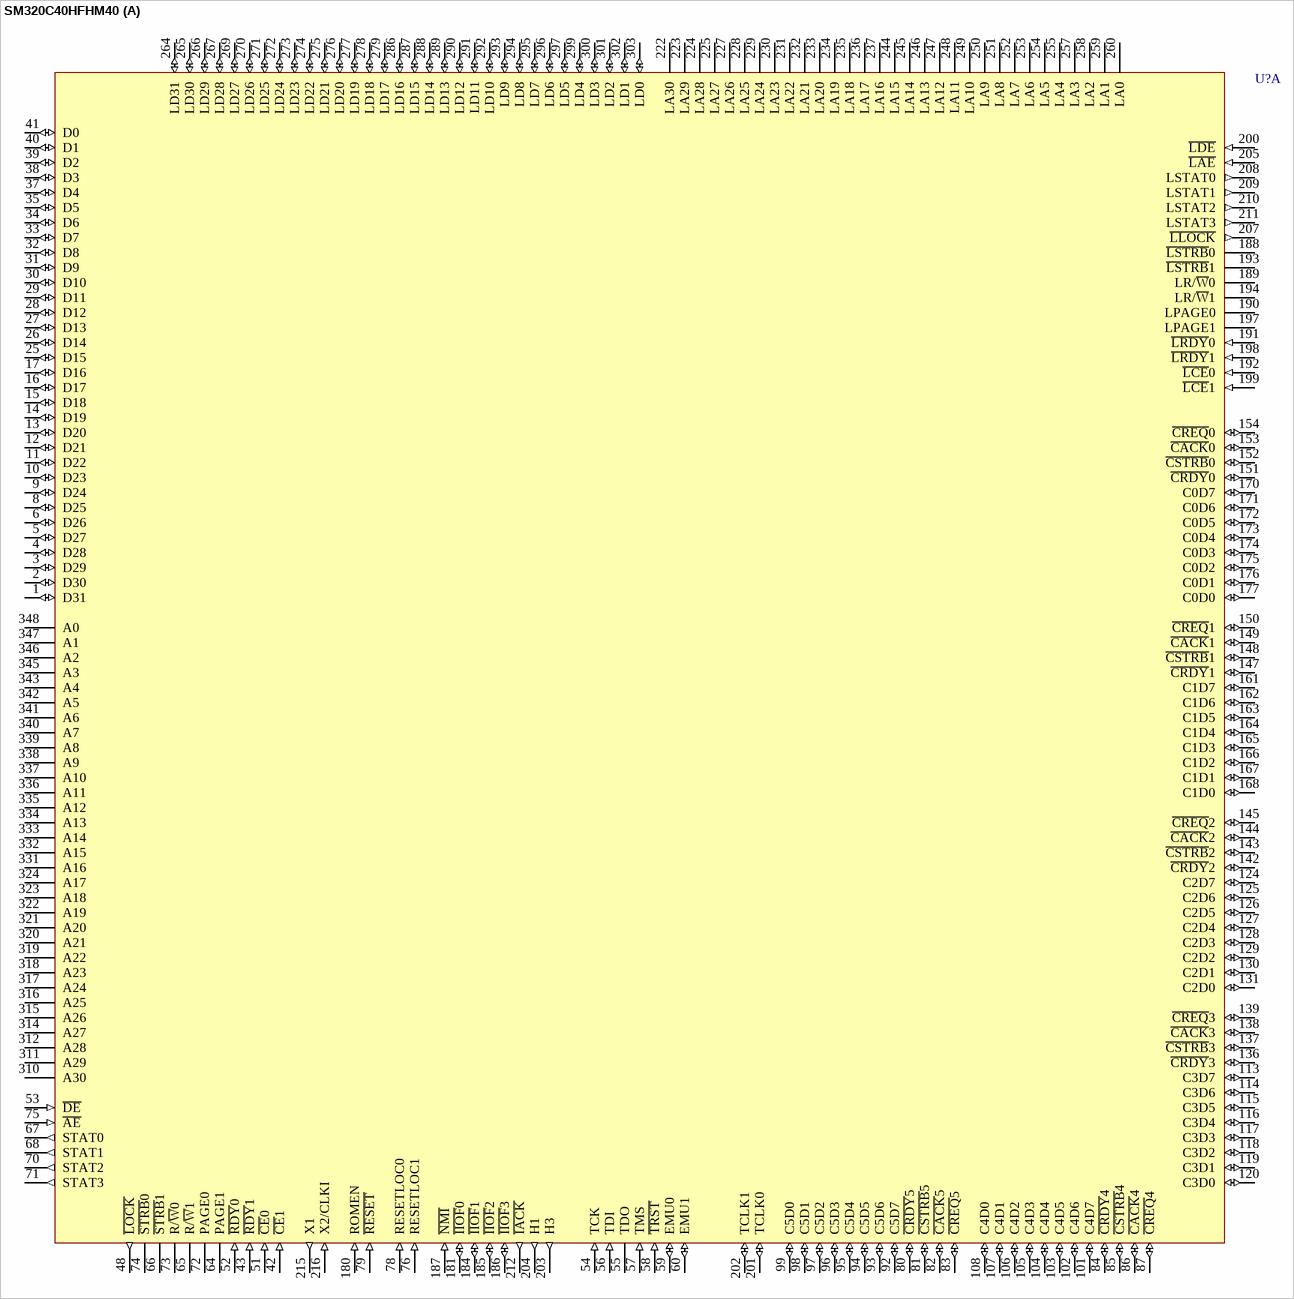
[diagram p46: symbol SM320C40HFHM40]

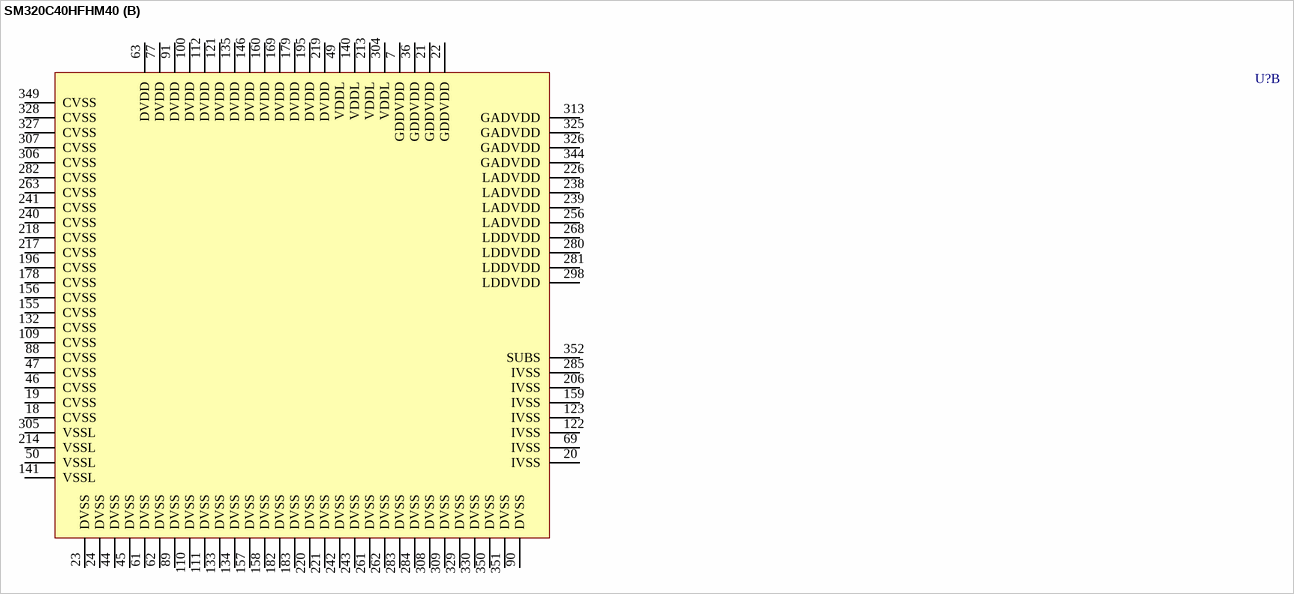
[diagram p47: symbol SM320C40HFHM40]

## SM320C40HFHM40
designator U?
Floating DSP; Published: 25-Jan-2001; LatestRevisionDate: 13-Apr-2006; LatestRevisionNote: IPC-7351 Footprint Added.; DatasheetVersion: Jun-2000; PackageVersion: Jun-1999; PackageReference: HFH352; Publisher: Altium Limited; PackageDescription: QFP; 352 Leads; Body 48 x 48 mm; Pitch 0.5mm; ComponentLink1Description: Manufacturer Link; ComponentLink1URL: http://www.ti.com/; ComponentLink2Description: Datasheet; ComponentLink2URL: http://www-s.ti.com/sc/ds/sm320c40.pdf
footprint HFH352_N (CQFP, 352-Leads, Body 48x48mm; Pitch 0.5mm, Gullwing Leadform, IPC Medium Density)
footprint HFH352_L (CQFP, 352-Leads, Body 48x48mm; Pitch 0.5mm, Gullwing Leadform, IPC High Density)
footprint HFH352_M (CQFP, 352-Leads, Body 48x48mm; Pitch 0.5mm, Gullwing Leadform, IPC Low Density)
3D model SM320C40-HFH352 (QFP; 352 Leads; Body 48 x 48 mm; Pitch 0.5mm)
part A pins: 1 D31 (io), 2 D30 (io), 3 D29 (io), 4 D28 (io), 5 D27 (io), 6 D26 (io), 8 D25 (io), 9 D24 (io), 10 D23 (io), 11 D22 (io), 12 D21 (io), 13 D20 (io), 14 D19 (io), 15 D18 (io), 16 D17 (io), 17 D16 (io), 25 D15 (io), 26 D14 (io), 27 D13 (io), 28 D12 (io), 29 D11 (io), 30 D10 (io), 31 D9 (io), 32 D8 (io), 33 D7 (io), 34 D6 (io), 35 D5 (io), 37 D4 (io), 38 D3 (io), 39 D2 (io), 40 D1 (io), 41 D0 (io), 42 ~{CE}1 (in), 43 ~{RDY}1 (in), 48 ~{LOCK} (out), 51 ~{CE}0 (in), 52 ~{RDY}0 (in), 53 ~{DE} (in), 54 TCK (in), 55 TDO (hiz), 56 TDI (in), 57 TMS (in), 58 ~{TRST} (in), 59 EMU0 (io), 60 EMU1 (io), 64 PAGE1 (hiz), 65 R/~{W}1 (hiz), 66 ~{STRB}1 (hiz), 67 STAT0 (out), 68 STAT1 (out), 70 STAT2 (out), 71 STAT3 (out), 72 PAGE0 (hiz), 73 R/~{W}0 (hiz), 74 ~{STRB}0 (hiz), 75 ~{AE} (in), 76 RESETLOC1 (in), 78 RESETLOC0 (in), 79 ~{RESET} (in), 80 ~{CRDY}5 (io), 81 ~{CSTRB}5 (io), 82 ~{CACK}5 (io), 83 ~{CREQ}5 (io), 84 ~{CRDY}4 (io), 85 ~{CSTRB}4 (io), 86 ~{CACK}4 (io), 87 ~{CREQ}4 (io), 92 C5D7 (io), 93 C5D6 (io), 94 C5D5 (io), 95 C5D4 (io), 96 C5D3 (io), 97 C5D2 (io), 98 C5D1 (io), 99 C5D0 (io), 101 C4D7 (io), 102 C4D6 (io), 103 C4D5 (io), 104 C4D4 (io), 105 C4D3 (io), 106 C4D2 (io), 107 C4D1 (io), 108 C4D0 (io), 113 C3D7 (io), 114 C3D6 (io), 115 C3D5 (io), 116 C3D4 (io), 117 C3D3 (io), 118 C3D2 (io), 119 C3D1 (io), 120 C3D0 (io), 124 C2D7 (io), 125 C2D6 (io), 126 C2D5 (io), 127 C2D4 (io), 128 C2D3 (io), 129 C2D2 (io), 130 C2D1 (io), 131 C2D0 (io), 136 ~{CRDY}3 (io), 137 ~{CSTRB}3 (io), 138 ~{CACK}3 (io), 139 ~{CREQ}3 (io), 142 ~{CRDY}2 (io), 143 ~{CSTRB}2 (io), 144 ~{CACK}2 (io), 145 ~{CREQ}2 (io), 147 ~{CRDY}1 (io), 148 ~{CSTRB}1 (io), 149 ~{CACK}1 (io), 150 ~{CREQ}1 (io), 151 ~{CRDY}0 (io), 152 ~{CSTRB}0 (io), 153 ~{CACK}0 (io), 154 ~{CREQ}0 (io), 161 C1D7 (io), 162 C1D6 (io), 163 C1D5 (io), 164 C1D4 (io), 165 C1D3 (io), 166 C1D2 (io), 167 C1D1 (io), 168 C1D0 (io), 170 C0D7 (io), 171 C0D6 (io), 172 C0D5 (io), 173 C0D4 (io), 174 C0D3 (io), 175 C0D2 (io), 176 C0D1 (io), 177 C0D0 (io), 180 ROMEN (in), 181 ~{IIOF}0 (io), 184 ~{IIOF}1 (io), 185 ~{IIOF}2 (io), 186 ~{IIOF}3 (io), 187 ~{NMI} (in), 188 ~{LSTRB}0 (hiz), 189 LR/~{W}0 (hiz), 190 LPAGE0 (hiz), 191 ~{LRDY}0 (in), 192 ~{LCE}0 (in), 193 ~{LSTRB}1 (hiz), 194 LR/~{W}1 (hiz), 197 LPAGE1 (hiz), 198 ~{LRDY}1 (in), 199 ~{LCE}1 (in), 200 ~{LDE} (in), 201 TCLK0 (io), 202 TCLK1 (io), 203 H3 (out), 204 H1 (out), 205 ~{LAE} (in), 207 ~{LLOCK} (out), 208 LSTAT0 (out), 209 LSTAT1 (out), 210 LSTAT2 (out), 211 LSTAT3 (out), 212 ~{IACK} (out), 215 X1 (out), 216 X2/CLKI (in), 222 LA30 (hiz), 223 LA29 (hiz), 224 LA28 (hiz), 225 LA27 (hiz), 227 LA26 (hiz), 228 LA25 (hiz), 229 LA24 (hiz), 230 LA23 (hiz), 231 LA22 (hiz), 232 LA21 (hiz), 233 LA20 (hiz), 234 LA19 (hiz), 235 LA18 (hiz), 236 LA17 (hiz), 237 LA16 (hiz), 244 LA15 (hiz), 245 LA14 (hiz), 246 LA13 (hiz), 247 LA12 (hiz), 248 LA11 (hiz), 249 LA10 (hiz), 250 LA9 (hiz), 251 LA8 (hiz), 252 LA7 (hiz), 253 LA6 (hiz), 254 LA5 (hiz), 255 LA4 (hiz), 257 LA3 (hiz), 258 LA2 (hiz), 259 LA1 (hiz), 260 LA0 (hiz), 264 LD31 (io), 265 LD30 (io), 266 LD29 (io), 267 LD28 (io), 269 LD27 (io), 270 LD26 (io), 271 LD25 (io), 272 LD24 (io), 273 LD23 (io), 274 LD22 (io), 275 LD21 (io), 276 LD20 (io), 277 LD19 (io), 278 LD18 (io), 279 LD17 (io), 286 LD16 (io), 287 LD15 (io), 288 LD14 (io), 289 LD13 (io), 290 LD12 (io), 291 LD11 (io), 292 LD10 (io), 293 LD9 (io), 294 LD8 (io), 295 LD7 (io), 296 LD6 (io), 297 LD5 (io), 299 LD4 (io), 300 LD3 (io), 301 LD2 (io), 302 LD1 (io), 303 LD0 (io), 310 A30 (hiz), 311 A29 (hiz), 312 A28 (hiz), 314 A27 (hiz), 315 A26 (hiz), 316 A25 (hiz), 317 A24 (hiz), 318 A23 (hiz), 319 A22 (hiz), 320 A21 (hiz), 321 A20 (hiz), 322 A19 (hiz), 323 A18 (hiz), 324 A17 (hiz), 331 A16 (hiz), 332 A15 (hiz), 333 A14 (hiz), 334 A13 (hiz), 335 A12 (hiz), 336 A11 (hiz), 337 A10 (hiz), 338 A9 (hiz), 339 A8 (hiz), 340 A7 (hiz), 341 A6 (hiz), 342 A5 (hiz), 343 A4 (hiz), 345 A3 (hiz), 346 A2 (hiz), 347 A1 (hiz), 348 A0 (hiz)
part B pins: 7 GDDVDD (power), 18 CVSS (power), 19 CVSS (power), 20 IVSS (power), 21 GDDVDD (power), 22 GDDVDD (power), 23 DVSS (power), 24 DVSS (power), 36 GDDVDD (power), 44 DVSS (power), 45 DVSS (power), 46 CVSS (power), 47 CVSS (power), 49 VDDL (power), 50 VSSL (power), 61 DVSS (power), 62 DVSS (power), 63 DVDD (power), 69 IVSS (power), 77 DVDD (power), 88 CVSS (power), 89 DVSS (power), 90 DVSS (power), 91 DVDD (power), 100 DVDD (power), 109 CVSS (power), 110 DVSS (power), 111 DVSS (power), 112 DVDD (power), 121 DVDD (power), 122 IVSS (power), 123 IVSS (power), 132 CVSS (power), 133 DVSS (power), 134 DVSS (power), 135 DVDD (power), 140 VDDL (power), 141 VSSL (power), 146 DVDD (power), 155 CVSS (power), 156 CVSS (power), 157 DVSS (power), 158 DVSS (power), 159 IVSS (power), 160 DVDD (power), 169 DVDD (power), 178 CVSS (power), 179 DVDD (power), 182 DVSS (power), 183 DVSS (power), 195 DVDD (power), 196 CVSS (power), 206 IVSS (power), 213 VDDL (power), 214 VSSL (power), 217 CVSS (power), 218 CVSS (power), 219 DVDD (power), 220 DVSS (power), 221 DVSS (power), 226 LADVDD (power), 238 LADVDD (power), 239 LADVDD (power), 240 CVSS (power), 241 CVSS (power), 242 DVSS (power), 243 DVSS (power), 256 LADVDD (power), 261 DVSS (power), 262 DVSS (power), 263 CVSS (power), 268 LDDVDD (power), 280 LDDVDD (power), 281 LDDVDD (power), 282 CVSS (power), 283 DVSS (power), 284 DVSS (power), 285 IVSS (power), 298 LDDVDD (power), 304 VDDL (power), 305 VSSL (power), 306 CVSS (power), 307 CVSS (power), 308 DVSS (power), 309 DVSS (power), 313 GADVDD (power), 325 GADVDD (power), 326 GADVDD (power), 327 CVSS (power), 328 CVSS (power), 329 DVSS (power), 330 DVSS (power), 344 GADVDD (power), 349 CVSS (power), 350 DVSS (power), 351 DVSS (power), 352 SUBS (power)

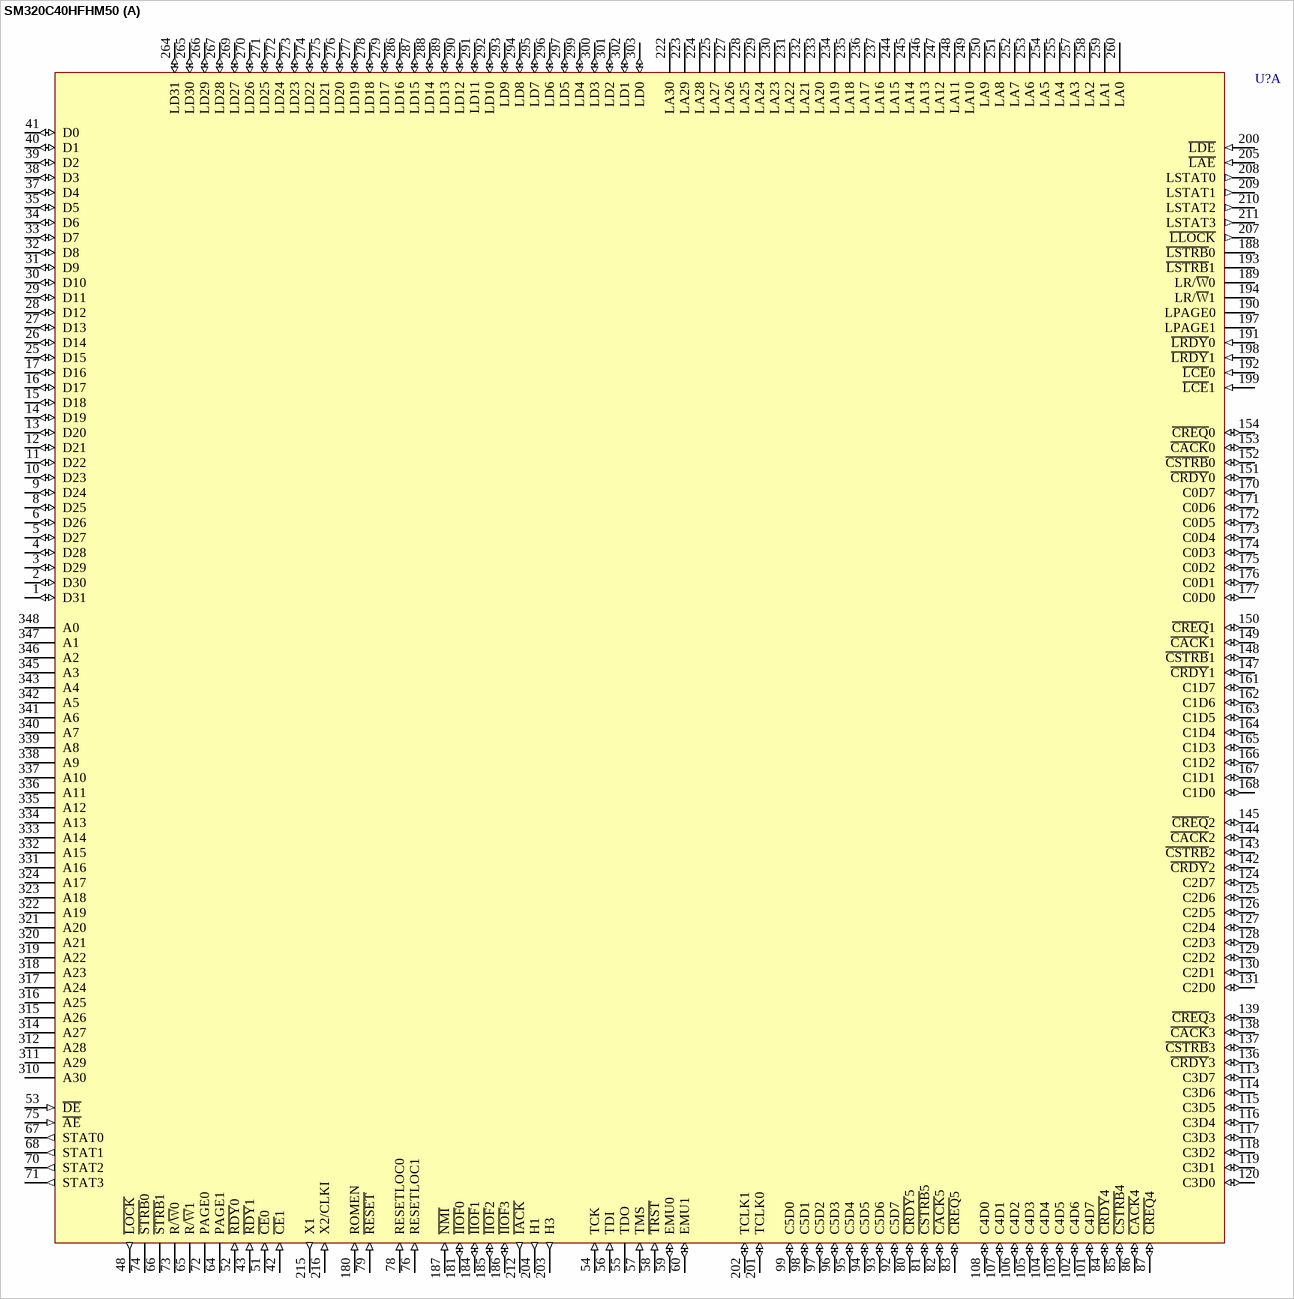
[diagram p48: symbol SM320C40HFHM50]

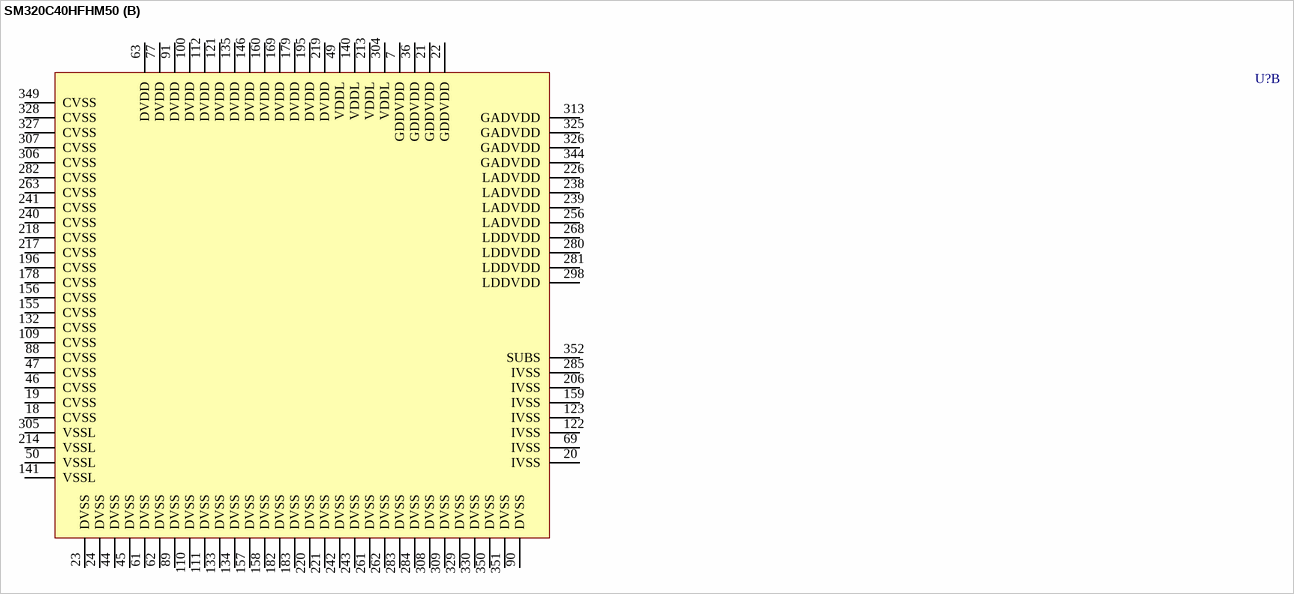
[diagram p49: symbol SM320C40HFHM50]

## SM320C40HFHM50
designator U?
Floating DSP; Published: 25-Jan-2001; LatestRevisionDate: 13-Apr-2006; LatestRevisionNote: IPC-7351 Footprint Added.; DatasheetVersion: Jun-2000; PackageVersion: Jun-1999; PackageReference: HFH352; Publisher: Altium Limited; PackageDescription: QFP; 352 Leads; Body 48 x 48 mm; Pitch 0.5mm; ComponentLink1Description: Manufacturer Link; ComponentLink1URL: http://www.ti.com/; ComponentLink2Description: Datasheet; ComponentLink2URL: http://www-s.ti.com/sc/ds/sm320c40.pdf
footprint HFH352_N (CQFP, 352-Leads, Body 48x48mm; Pitch 0.5mm, Gullwing Leadform, IPC Medium Density)
footprint HFH352_L (CQFP, 352-Leads, Body 48x48mm; Pitch 0.5mm, Gullwing Leadform, IPC High Density)
footprint HFH352_M (CQFP, 352-Leads, Body 48x48mm; Pitch 0.5mm, Gullwing Leadform, IPC Low Density)
3D model SM320C40-HFH352 (QFP; 352 Leads; Body 48 x 48 mm; Pitch 0.5mm)
part A pins: 1 D31 (io), 2 D30 (io), 3 D29 (io), 4 D28 (io), 5 D27 (io), 6 D26 (io), 8 D25 (io), 9 D24 (io), 10 D23 (io), 11 D22 (io), 12 D21 (io), 13 D20 (io), 14 D19 (io), 15 D18 (io), 16 D17 (io), 17 D16 (io), 25 D15 (io), 26 D14 (io), 27 D13 (io), 28 D12 (io), 29 D11 (io), 30 D10 (io), 31 D9 (io), 32 D8 (io), 33 D7 (io), 34 D6 (io), 35 D5 (io), 37 D4 (io), 38 D3 (io), 39 D2 (io), 40 D1 (io), 41 D0 (io), 42 ~{CE}1 (in), 43 ~{RDY}1 (in), 48 ~{LOCK} (out), 51 ~{CE}0 (in), 52 ~{RDY}0 (in), 53 ~{DE} (in), 54 TCK (in), 55 TDO (hiz), 56 TDI (in), 57 TMS (in), 58 ~{TRST} (in), 59 EMU0 (io), 60 EMU1 (io), 64 PAGE1 (hiz), 65 R/~{W}1 (hiz), 66 ~{STRB}1 (hiz), 67 STAT0 (out), 68 STAT1 (out), 70 STAT2 (out), 71 STAT3 (out), 72 PAGE0 (hiz), 73 R/~{W}0 (hiz), 74 ~{STRB}0 (hiz), 75 ~{AE} (in), 76 RESETLOC1 (in), 78 RESETLOC0 (in), 79 ~{RESET} (in), 80 ~{CRDY}5 (io), 81 ~{CSTRB}5 (io), 82 ~{CACK}5 (io), 83 ~{CREQ}5 (io), 84 ~{CRDY}4 (io), 85 ~{CSTRB}4 (io), 86 ~{CACK}4 (io), 87 ~{CREQ}4 (io), 92 C5D7 (io), 93 C5D6 (io), 94 C5D5 (io), 95 C5D4 (io), 96 C5D3 (io), 97 C5D2 (io), 98 C5D1 (io), 99 C5D0 (io), 101 C4D7 (io), 102 C4D6 (io), 103 C4D5 (io), 104 C4D4 (io), 105 C4D3 (io), 106 C4D2 (io), 107 C4D1 (io), 108 C4D0 (io), 113 C3D7 (io), 114 C3D6 (io), 115 C3D5 (io), 116 C3D4 (io), 117 C3D3 (io), 118 C3D2 (io), 119 C3D1 (io), 120 C3D0 (io), 124 C2D7 (io), 125 C2D6 (io), 126 C2D5 (io), 127 C2D4 (io), 128 C2D3 (io), 129 C2D2 (io), 130 C2D1 (io), 131 C2D0 (io), 136 ~{CRDY}3 (io), 137 ~{CSTRB}3 (io), 138 ~{CACK}3 (io), 139 ~{CREQ}3 (io), 142 ~{CRDY}2 (io), 143 ~{CSTRB}2 (io), 144 ~{CACK}2 (io), 145 ~{CREQ}2 (io), 147 ~{CRDY}1 (io), 148 ~{CSTRB}1 (io), 149 ~{CACK}1 (io), 150 ~{CREQ}1 (io), 151 ~{CRDY}0 (io), 152 ~{CSTRB}0 (io), 153 ~{CACK}0 (io), 154 ~{CREQ}0 (io), 161 C1D7 (io), 162 C1D6 (io), 163 C1D5 (io), 164 C1D4 (io), 165 C1D3 (io), 166 C1D2 (io), 167 C1D1 (io), 168 C1D0 (io), 170 C0D7 (io), 171 C0D6 (io), 172 C0D5 (io), 173 C0D4 (io), 174 C0D3 (io), 175 C0D2 (io), 176 C0D1 (io), 177 C0D0 (io), 180 ROMEN (in), 181 ~{IIOF}0 (io), 184 ~{IIOF}1 (io), 185 ~{IIOF}2 (io), 186 ~{IIOF}3 (io), 187 ~{NMI} (in), 188 ~{LSTRB}0 (hiz), 189 LR/~{W}0 (hiz), 190 LPAGE0 (hiz), 191 ~{LRDY}0 (in), 192 ~{LCE}0 (in), 193 ~{LSTRB}1 (hiz), 194 LR/~{W}1 (hiz), 197 LPAGE1 (hiz), 198 ~{LRDY}1 (in), 199 ~{LCE}1 (in), 200 ~{LDE} (in), 201 TCLK0 (io), 202 TCLK1 (io), 203 H3 (out), 204 H1 (out), 205 ~{LAE} (in), 207 ~{LLOCK} (out), 208 LSTAT0 (out), 209 LSTAT1 (out), 210 LSTAT2 (out), 211 LSTAT3 (out), 212 ~{IACK} (out), 215 X1 (out), 216 X2/CLKI (in), 222 LA30 (hiz), 223 LA29 (hiz), 224 LA28 (hiz), 225 LA27 (hiz), 227 LA26 (hiz), 228 LA25 (hiz), 229 LA24 (hiz), 230 LA23 (hiz), 231 LA22 (hiz), 232 LA21 (hiz), 233 LA20 (hiz), 234 LA19 (hiz), 235 LA18 (hiz), 236 LA17 (hiz), 237 LA16 (hiz), 244 LA15 (hiz), 245 LA14 (hiz), 246 LA13 (hiz), 247 LA12 (hiz), 248 LA11 (hiz), 249 LA10 (hiz), 250 LA9 (hiz), 251 LA8 (hiz), 252 LA7 (hiz), 253 LA6 (hiz), 254 LA5 (hiz), 255 LA4 (hiz), 257 LA3 (hiz), 258 LA2 (hiz), 259 LA1 (hiz), 260 LA0 (hiz), 264 LD31 (io), 265 LD30 (io), 266 LD29 (io), 267 LD28 (io), 269 LD27 (io), 270 LD26 (io), 271 LD25 (io), 272 LD24 (io), 273 LD23 (io), 274 LD22 (io), 275 LD21 (io), 276 LD20 (io), 277 LD19 (io), 278 LD18 (io), 279 LD17 (io), 286 LD16 (io), 287 LD15 (io), 288 LD14 (io), 289 LD13 (io), 290 LD12 (io), 291 LD11 (io), 292 LD10 (io), 293 LD9 (io), 294 LD8 (io), 295 LD7 (io), 296 LD6 (io), 297 LD5 (io), 299 LD4 (io), 300 LD3 (io), 301 LD2 (io), 302 LD1 (io), 303 LD0 (io), 310 A30 (hiz), 311 A29 (hiz), 312 A28 (hiz), 314 A27 (hiz), 315 A26 (hiz), 316 A25 (hiz), 317 A24 (hiz), 318 A23 (hiz), 319 A22 (hiz), 320 A21 (hiz), 321 A20 (hiz), 322 A19 (hiz), 323 A18 (hiz), 324 A17 (hiz), 331 A16 (hiz), 332 A15 (hiz), 333 A14 (hiz), 334 A13 (hiz), 335 A12 (hiz), 336 A11 (hiz), 337 A10 (hiz), 338 A9 (hiz), 339 A8 (hiz), 340 A7 (hiz), 341 A6 (hiz), 342 A5 (hiz), 343 A4 (hiz), 345 A3 (hiz), 346 A2 (hiz), 347 A1 (hiz), 348 A0 (hiz)
part B pins: 7 GDDVDD (power), 18 CVSS (power), 19 CVSS (power), 20 IVSS (power), 21 GDDVDD (power), 22 GDDVDD (power), 23 DVSS (power), 24 DVSS (power), 36 GDDVDD (power), 44 DVSS (power), 45 DVSS (power), 46 CVSS (power), 47 CVSS (power), 49 VDDL (power), 50 VSSL (power), 61 DVSS (power), 62 DVSS (power), 63 DVDD (power), 69 IVSS (power), 77 DVDD (power), 88 CVSS (power), 89 DVSS (power), 90 DVSS (power), 91 DVDD (power), 100 DVDD (power), 109 CVSS (power), 110 DVSS (power), 111 DVSS (power), 112 DVDD (power), 121 DVDD (power), 122 IVSS (power), 123 IVSS (power), 132 CVSS (power), 133 DVSS (power), 134 DVSS (power), 135 DVDD (power), 140 VDDL (power), 141 VSSL (power), 146 DVDD (power), 155 CVSS (power), 156 CVSS (power), 157 DVSS (power), 158 DVSS (power), 159 IVSS (power), 160 DVDD (power), 169 DVDD (power), 178 CVSS (power), 179 DVDD (power), 182 DVSS (power), 183 DVSS (power), 195 DVDD (power), 196 CVSS (power), 206 IVSS (power), 213 VDDL (power), 214 VSSL (power), 217 CVSS (power), 218 CVSS (power), 219 DVDD (power), 220 DVSS (power), 221 DVSS (power), 226 LADVDD (power), 238 LADVDD (power), 239 LADVDD (power), 240 CVSS (power), 241 CVSS (power), 242 DVSS (power), 243 DVSS (power), 256 LADVDD (power), 261 DVSS (power), 262 DVSS (power), 263 CVSS (power), 268 LDDVDD (power), 280 LDDVDD (power), 281 LDDVDD (power), 282 CVSS (power), 283 DVSS (power), 284 DVSS (power), 285 IVSS (power), 298 LDDVDD (power), 304 VDDL (power), 305 VSSL (power), 306 CVSS (power), 307 CVSS (power), 308 DVSS (power), 309 DVSS (power), 313 GADVDD (power), 325 GADVDD (power), 326 GADVDD (power), 327 CVSS (power), 328 CVSS (power), 329 DVSS (power), 330 DVSS (power), 344 GADVDD (power), 349 CVSS (power), 350 DVSS (power), 351 DVSS (power), 352 SUBS (power)

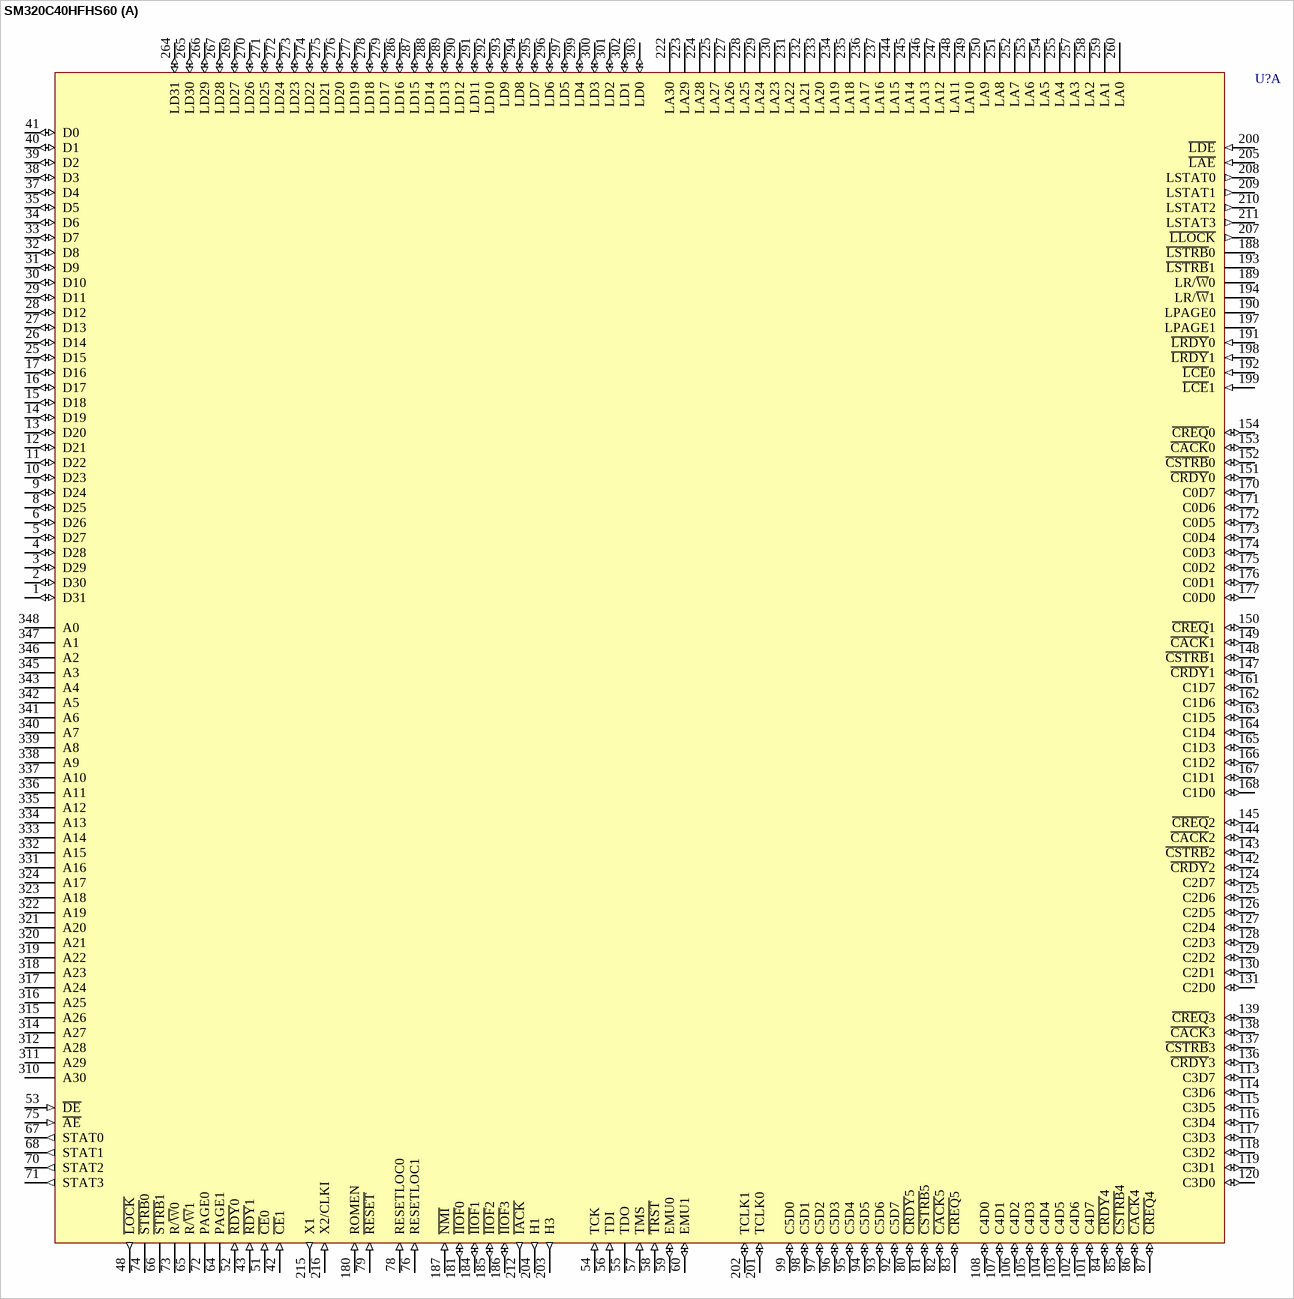
[diagram p50: symbol SM320C40HFHS60]

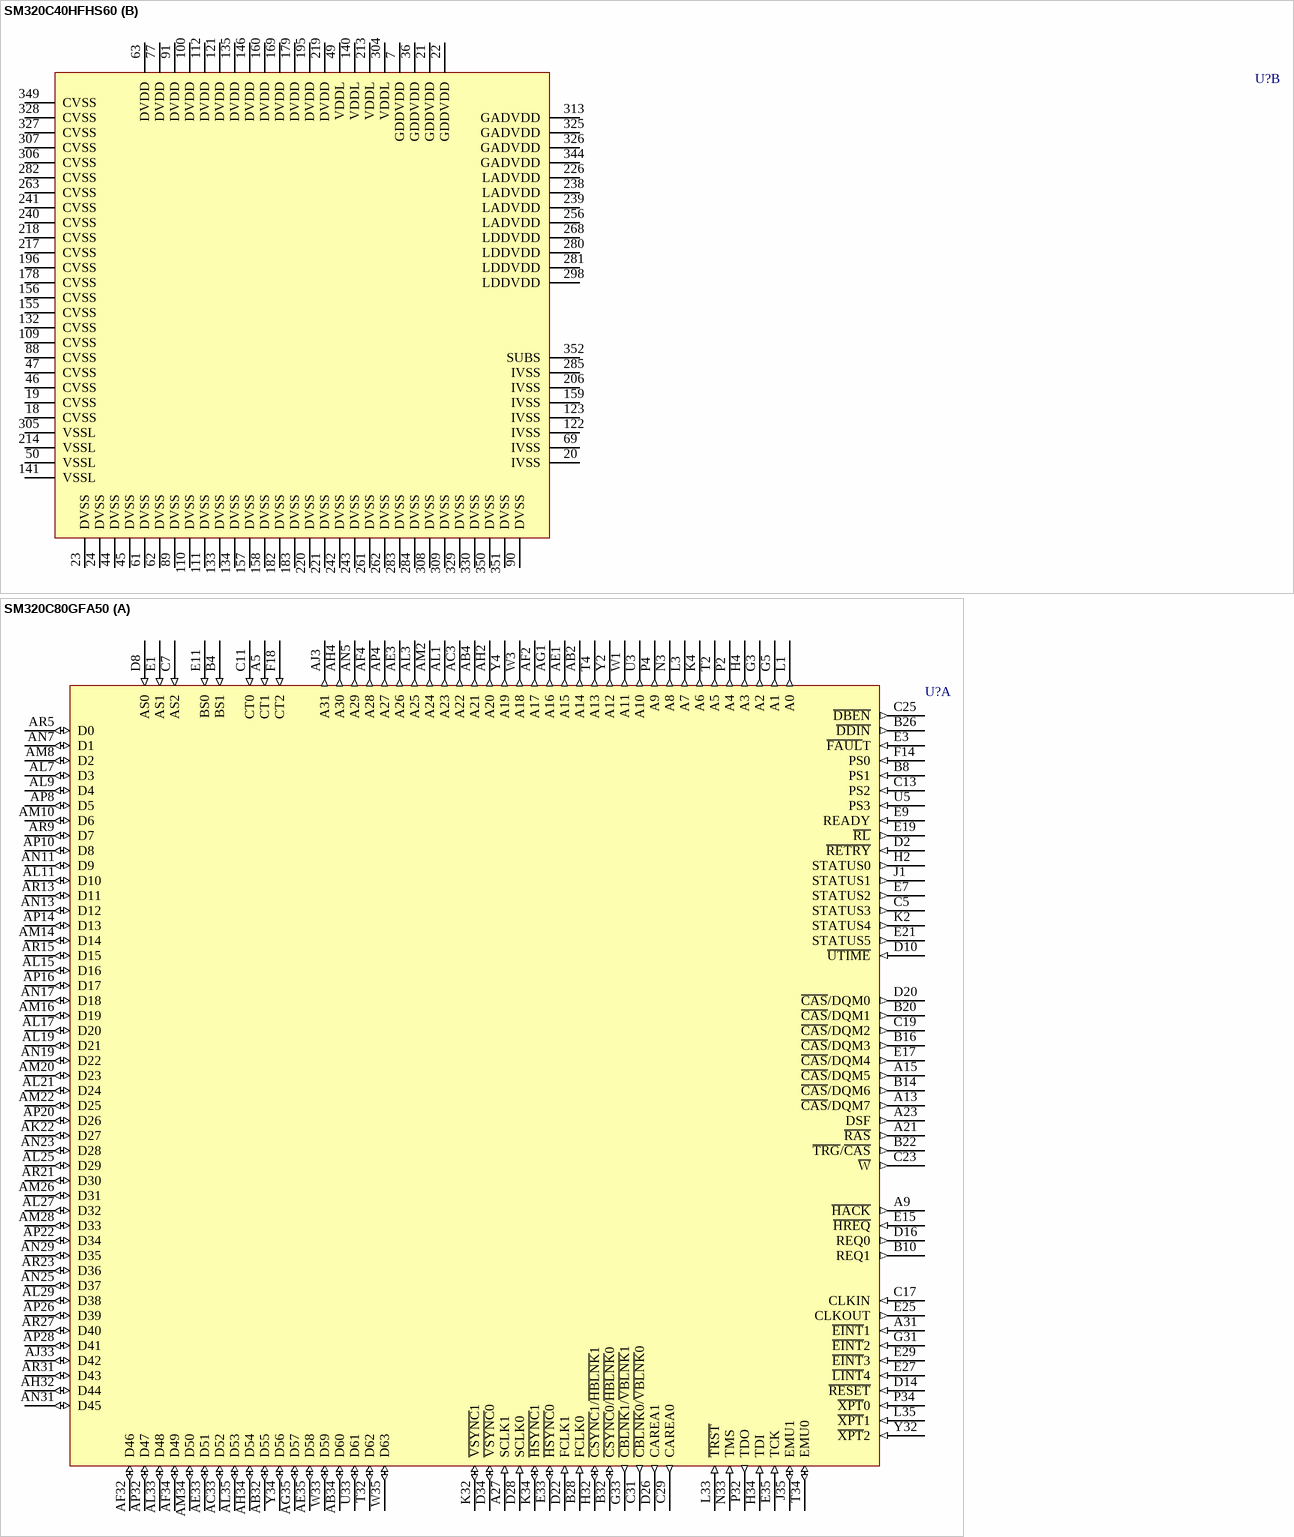
[diagram p51: symbols SM320C40HFHS60 to SM320C80GFA50]